# Altium schematic symbol library C-Connector.SchLib: 407 symbols (part 3 of 4)
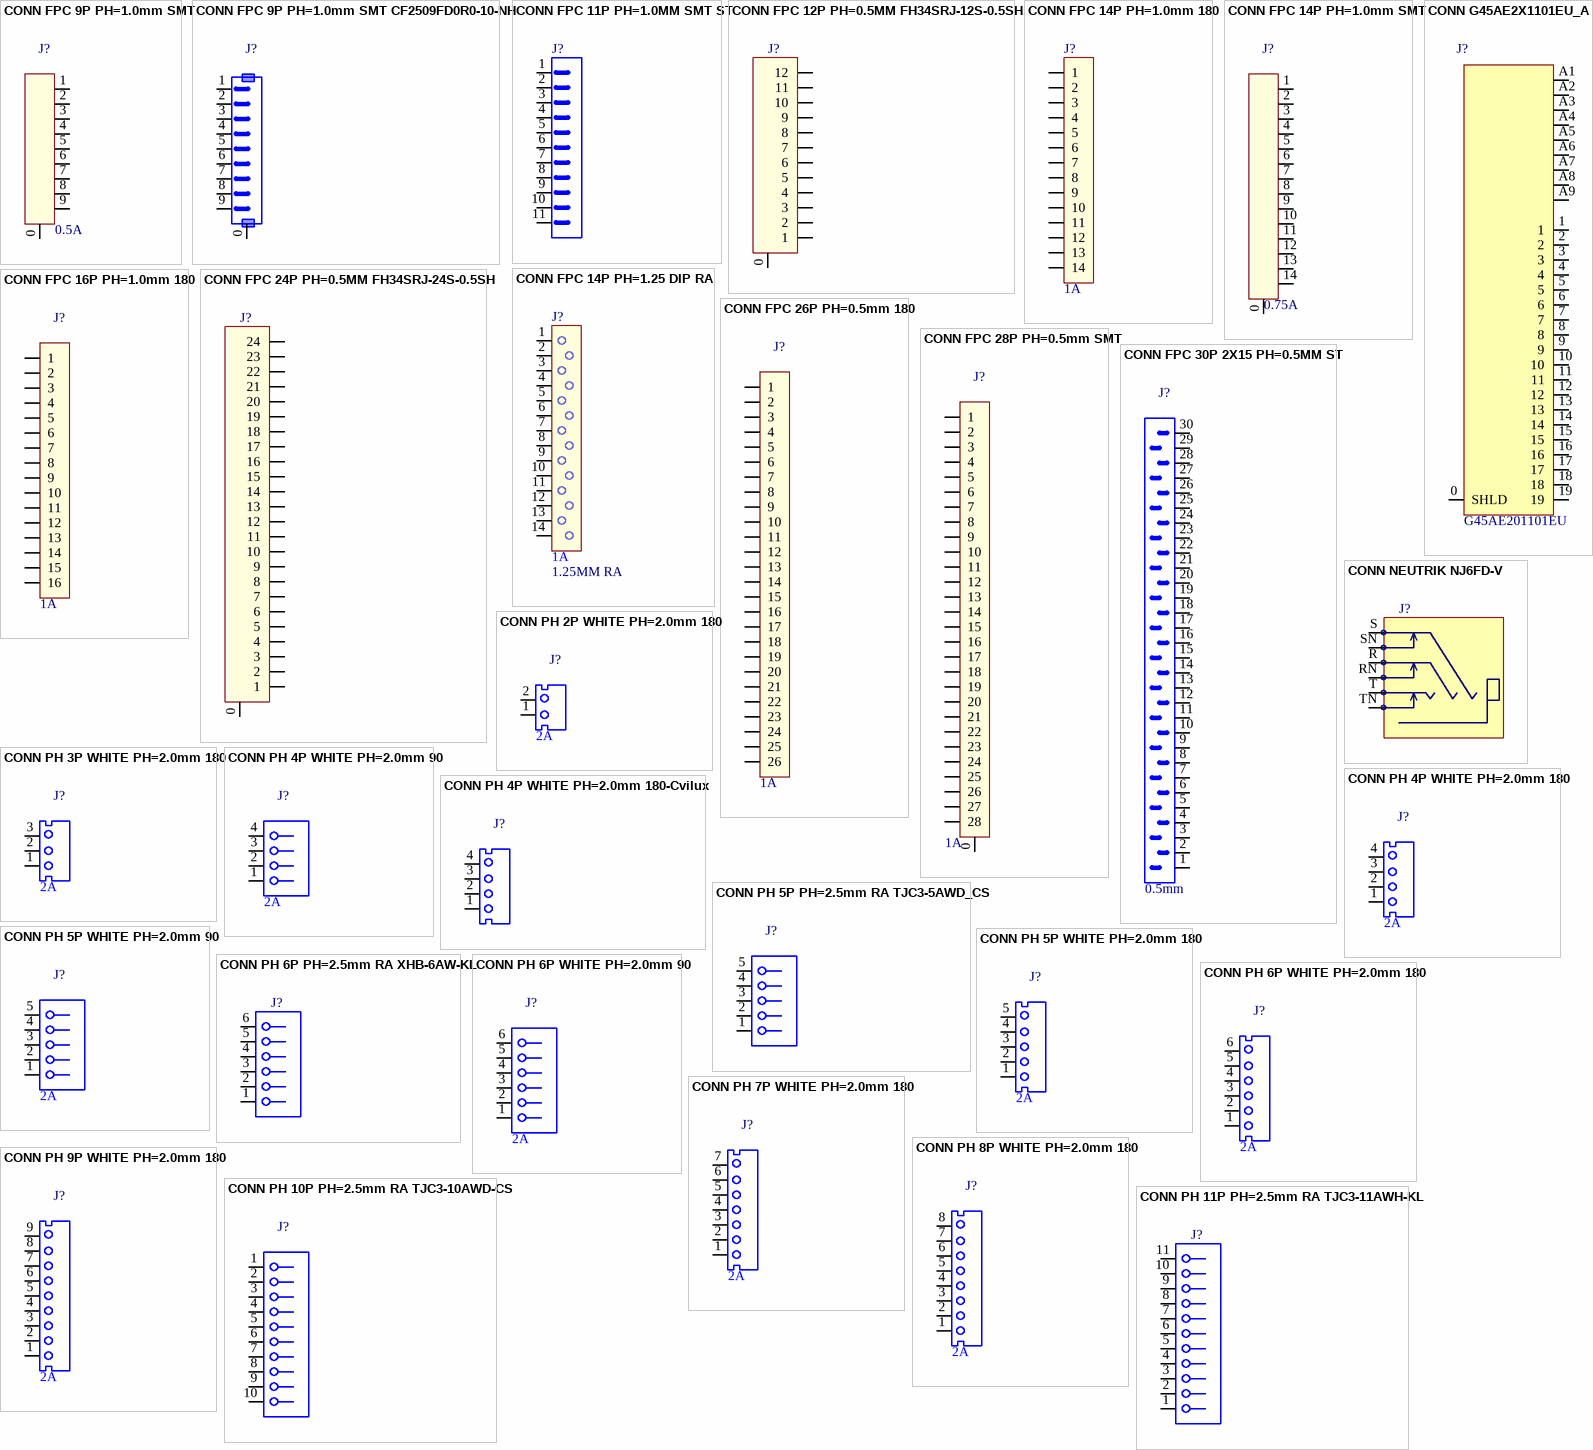
[diagram p16: symbols CONN FPC 9P PH=1.0mm SMT to CONN PH 11P PH=2.5mm RA TJC3-11AWH-KL]

## CONN PH 4P WHITE PH=2.0mm 180-Cvilux
designator J?, comment T690300058000  (value not drawn)
2.0MM 4P TOP ENTRY CI0104P1VK0-NH L; MFG: CVILUX; CREATE_NAME: Tom; DIP&SMD: DIP; Value: 2.0mm; SAP: T690300058000; MFG Part: CI0104P1VK0-NH; Vendor Name: *; Vendor Code: *; Type: Connector; CREATE_TIME: 25-Feb-2016
footprint CONN PH 4P PH=2.0MM 180 (CONN PH 4P PH=2.0MM 180 H6.2mm)
pins: 1, 2, 3, 4

## CONN PH 5P PH=2.5mm RA TJC3-5AWD_CS
designator J?, comment T690300078700  (value not drawn)
CONNECTOR 5PIN P:2.5MM FM\90 G; MFG Part: TJC3-5AWD_CS; Value: 2.5mm; MFG: JIN JIA; CREATE_NAME: Nathan; DIP&SMD: DIP; SAP: T690300078700; Vendor Name: *; Vendor Code: *; Type: Connector; Current: *; CREATE_TIME: 06-June-2016
footprint CONN 5P PH=2.5mm RA TJC3-5AWD-CS (WAFER 5P TJC3-5AWD-CS)
pins: 1, 2, 3, 4, 5

## CONN PH 5P WHITE PH=2.0mm 90
designator J?, comment Current: 2A  (hidden comment: CCN200000-0505)
GP CONNECTOR 5 PIN PITCH=2.0mm 90; Value: 2.0mm; SAP: T690300041000; Vendor Name: 亿源电子有限公司; Vendor Code: 10009989; DIP&SMD: DIP; MFG: *; MFG Part: *; Type: Connector
footprint CONN PH 5P PH=2.0MM 90 (CONN PH 5P PH=2.0MM 90 H5.15mm)
pins: 1, 2, 3, 4, 5

## CONN PH 5P WHITE PH=2.0mm 180
designator J?, comment Current: 2A  (hidden comment: CCN200000-0105)
GP CONNECTOR 5 PIN PITCH=2.0mm 180; Value: 2.0mm; SAP: T690300040500; Vendor Name: 亿源电子有限公司; Vendor Code: 10009989; DIP&SMD: DIP; MFG: *; MFG Part: *; Type: Connector
footprint CONN PH 5P PH=2.0MM 180 (CONN PH 5P PH=2.0MM 180 H6.2mm)
pins: 1, 2, 3, 4, 5

## CONN PH 6P PH=2.5mm RA XHB-6AW-KL
designator J?, comment T690300121600  (value not drawn)
CONNECTOR 6PIN P=2.5 WHITE 90 K; MFG Part: XHB-6AW-KL; Value: 2.5mm; MFG: 金佳电子; CREATE_NAME: Nathan; DIP&SMD: DIP; SAP: T690300121600; Vendor Name: *; Vendor Code: *; Type: Connector; Current: *; CREATE_TIME: 27-Sep-2017
footprint CONN 6P PH=2.5mm RA XHB-6AW-KL (WAFER 6P XHB-6AW-KL)
pins: 1, 2, 3, 4, 5, 6

## CONN PH 6P WHITE PH=2.0mm 90
designator J?, comment Current: 2A  (hidden comment: CCN200000-0506)
CONNECTOR 6 PIN PITCH=2.0mm 90; Value: 2.0mm; SAP: T690300041100; Vendor Name: 亿源电子有限公司; Vendor Code: 10009989; DIP&SMD: DIP; MFG: *; MFG Part: *; Type: Connector
footprint CONN PH 6P PH=2.0MM 90 (CONN PH 6P PH=2.0MM 90 H5.15mm)
pins: 1, 2, 3, 4, 5, 6

## CONN PH 6P WHITE PH=2.0mm 180
designator J?, comment Current: 2A  (hidden comment: CCN200000-0106)
GP CONNECTOR 6 PIN PITCH=2.0mm 180; Value: 2.0mm; SAP: T690300040600; Vendor Name: 亿源电子有限公司; Vendor Code: 10009989; DIP&SMD: DIP; MFG: *; MFG Part: *; Type: Connector
footprint CONN PH 6P PH=2.0MM 180 (CONN PH 6P PH=2.0MM 180 H6.2mm)
pins: 1, 2, 3, 4, 5, 6

## CONN PH 7P WHITE PH=2.0mm 180
designator J?, comment Current: 2A  (hidden comment: CCN200000-0107)
GP CONNECTOR 7 PIN PITCH=2.0mm 180; Value: 2.0mm; SAP: T690300027300; Vendor Name: 亿源电子有限公司; Vendor Code: 10009989; DIP&SMD: DIP; MFG: *; MFG Part: *; Type: Connector
footprint CONN PH 7P PH=2.0MM 180 (CONN PH 7P PH=2.0MM 180 H6.2mm)
pins: 1, 2, 3, 4, 5, 6, 7

## CONN PH 8P WHITE PH=2.0mm 180
designator J?, comment Current: 2A  (hidden comment: CCN200000-0108)
GP CONNECTOR 8 PIN PITCH=2.0mm 180; Value: 2.0mm; SAP: T690300027400; Vendor Name: 亿源电子有限公司; Vendor Code: 10009989; DIP&SMD: DIP; MFG: *; MFG Part: *; Type: Connector
footprint CONN PH 8P PH=2.0MM 180 (CONN PH 8P PH=2.0MM 180 H6.2mm)
pins: 1, 2, 3, 4, 5, 6, 7, 8

## CONN PH 9P WHITE PH=2.0mm 180
designator J?, comment Current: 2A  (hidden comment: CCN200000-0109)
GP CONNECTOR 9 PIN PITCH=2.0mm 180; Value: 2.0mm; SAP: T690300027500; Vendor Name: 深圳市利民丰电子有限公司; Vendor Code: 10020373; DIP&SMD: DIP; MFG: *; MFG Part: *; Type: Connector
footprint CONN PH 9P PH=2.0MM 180 (CONN PH 9P PH=2.0MM 180 H6.2mm)
pins: 1, 2, 3, 4, 5, 6, 7, 8, 9

## CONN PH 10P PH=2.5mm RA TJC3-10AWD-CS
designator J?, comment T690300164100  (value not drawn)
CONN 10P P2.5 M90 WHITE K; MFG Part: TJC3-10AWD-CS; Value: 2.5mm; MFG: JIN JIA; CREATE_NAME: Cherry; DIP&SMD: DIP; SAP: T690300164100; Vendor Name: *; Vendor Code: *; Type: Connector; Current: *; CREATE_TIME: 2019-04-10
footprint CONN 10P PH=2.5mm RA TJC3-10AWD-CS (WAFER 10P TJC3-10AWD-CS)
pins: 1, 2, 3, 4, 5, 6, 7, 8, 9, 10

## CONN PH 11P PH=2.5mm RA TJC3-11AWH-KL
designator J?, comment T690300122400  (value not drawn)
CONNECTOR 11P 2.5MM 90° DIP TJC3-11AWH K; MFG Part: TJC3-11AWH-KL; MFG: JINJIA; CREATE_NAME: Nathan; SAP: T690300122400; Vendor Name: *; Vendor Code: *; Type: Connector; CREATE_TIME: 09-Nov-2017; DIP&SMD: DIP
footprint CONN 11P PH=2.5mm RA TJC3-11AWH-KL (CONNECTOR 11PIN P=2.5 White 90')
pins: 1, 2, 3, 4, 5, 6, 7, 8, 9, 10, 11

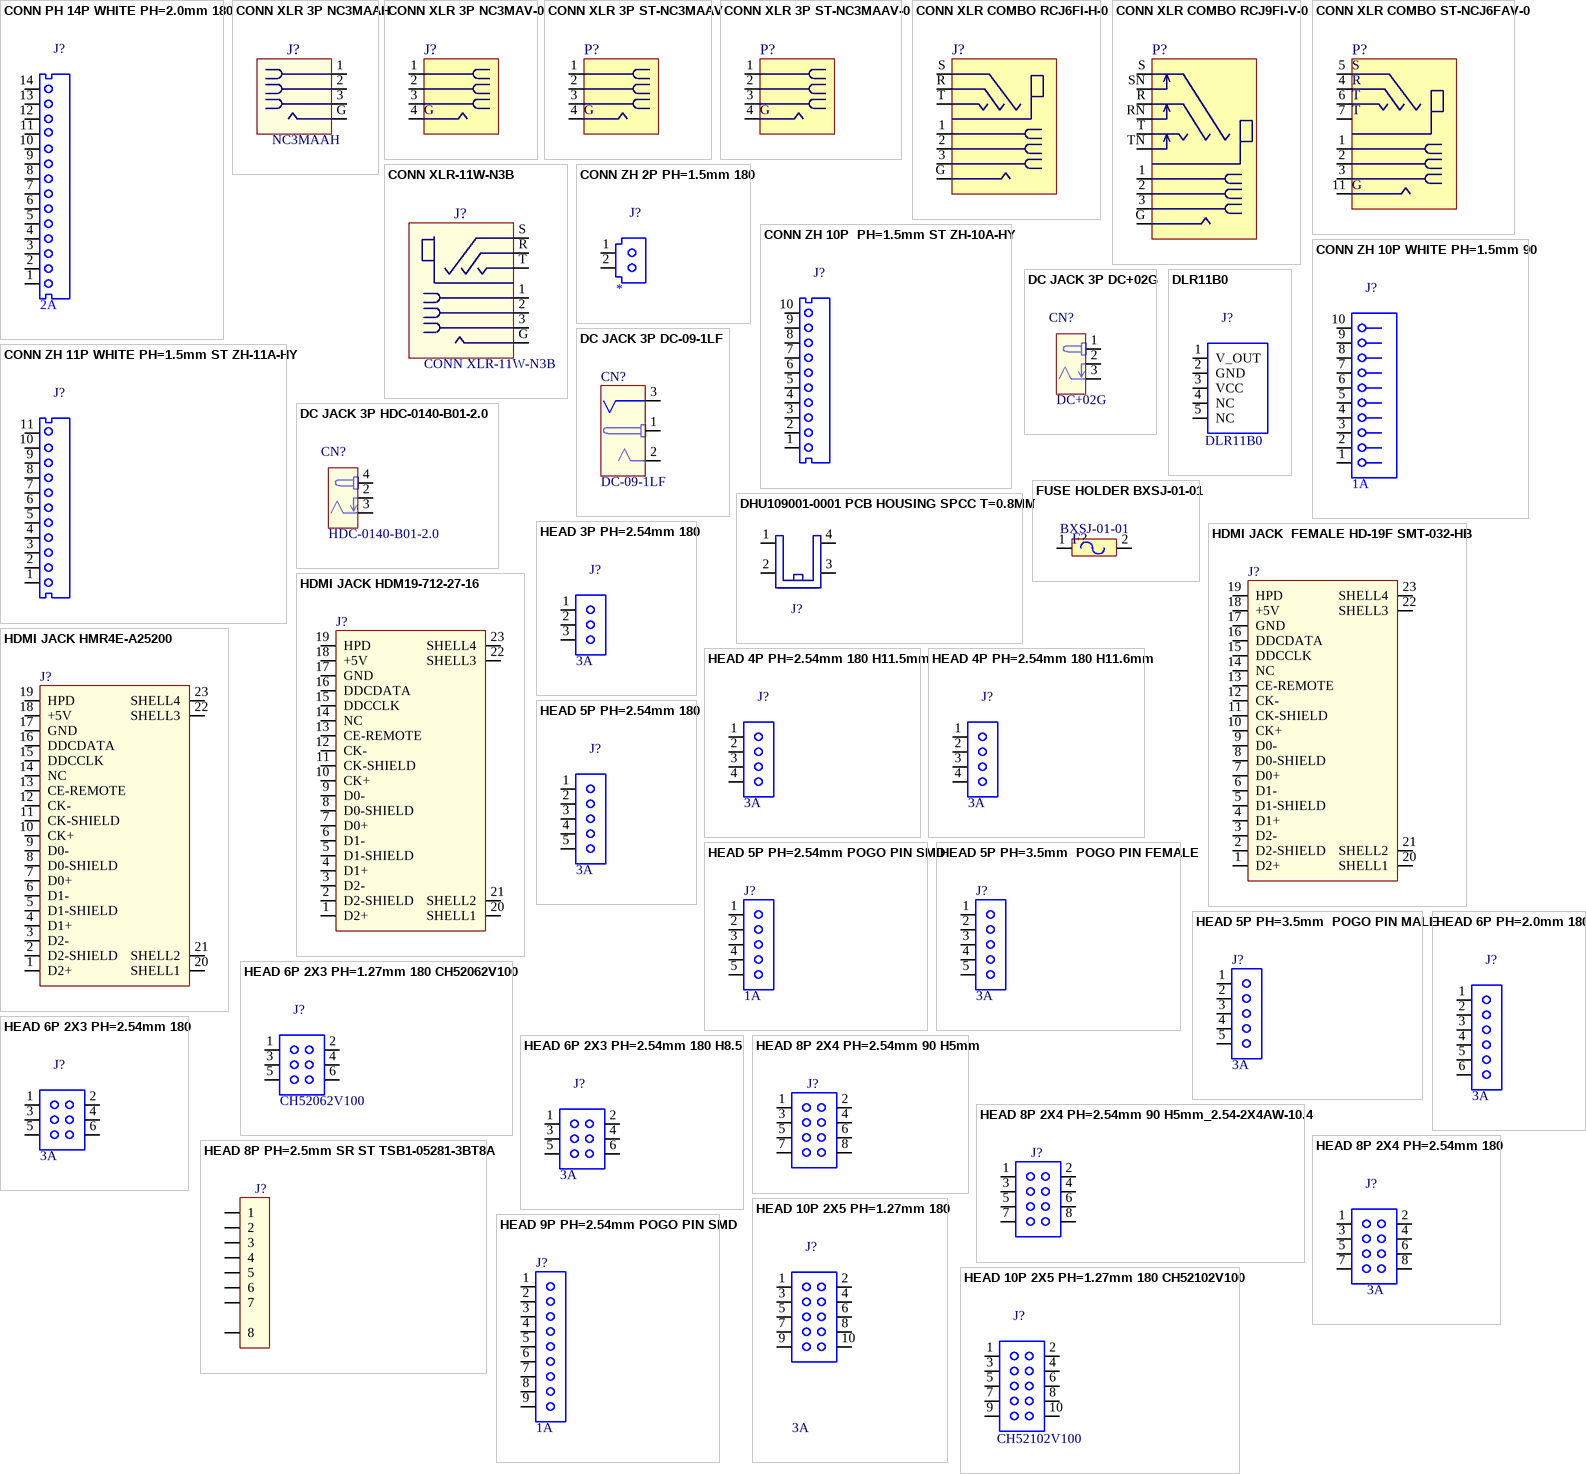
[diagram p9: symbols CONN PH 14P WHITE PH=2.0mm 180 to HEAD 10P 2X5 PH=1.27mm 180 CH52102V100]

## CONN PH 14P WHITE PH=2.0mm 180
designator J?, comment Current: 2A  (hidden comment: CCN200010-0114)
GP CONNECTOR 14 PIN PITCH=2.0mm 180; Value: 2.0mm; SAP: T690300028400; Vendor Name: 金科基; Vendor Code: HAA200A-14AD; CREATE_NAME: Nathan; DIP&SMD: DIP; MFG: *; MFG Part: *; Type: Connector; CREATE_TIME: 01-AUG-2014
footprint CONN PH 14P PH=2.0mm 180 (CONNECTOR 14P 2.0PITCH  WHITE NICKEL)
pins: 1, 2, 3, 4, 5, 6, 7, 8, 9, 10, 11, 12, 13, 14

## CONN XLR 3P NC3MAAH
designator J?, comment MFG Part: NC3MAAH  (hidden comment: T710200007000)
DIN JACK 3P Female NC3MAAH Neutrik; CREATE_NAME: Nathan; DIP&SMD: DIP; SAP: T710200007000; MFG: NEUTRIK; Vendor Name: *; Vendor Code: *; Type: Connector; CREATE_TIME: 21-Aug-2015
footprint CONN XLR 3P NC3MAAH
pins: 1, 2, 3, G

## CONN XLR 3P NC3MAV-0
designator J?, comment T710200009900  (value not drawn)
3 POLE MALE XLR RECEPTACLE K; MFG Part: NC3MAV-0; MFG: NEUTRIK; CREATE_NAME: Nathan; DIP&SMD: DIP; SAP: T710200009900; Vendor Name: *; Vendor Code: *; Type: Connector; CREATE_TIME: 20-Mar-2017
footprint CONN XLR 3P NC3MAV-0 (CONN XLR 3P NC3MAV)
pins: 1, 2, 3, 4
2 alternate drawings of the same symbol
text: G

## CONN XLR 3P ST-NC3MAAV
designator P?, comment CJDA03401-1010  (value not drawn)
XLR Connectors 3P NC3MAA; MFG Part: ST-NC3MAAV; SAP: T690300032000; MFG: NEUTRIK AG; CREATE_NAME: TOM@Deftronics; DIP&SMD: DIP; Vendor Name: *; Vendor Code: *; Type: Connector; CREATE_TIME: 31-MAY-2013
footprint CONN XLR 3P ST-NC3MAAV
pins: 1, 2, 3, 4
2 alternate drawings of the same symbol
text: G

## CONN XLR 3P ST-NC3MAAV-0
designator P?, comment T710200019600  (value not drawn)
3 POLE MALE XLR NC3MAAV-0 RECEPTACLE K; MFG Part: ST-NC3MAAV-0; MFG: NEUTRIK; CREATE_NAME: Nathan; DIP&SMD: DIP; SAP: T710200019600; Vendor Name: *; Vendor Code: *; Type: Connector; CREATE_TIME: 15-Mar-2019
footprint CONN XLR 3P ST-NC3MAAV-0 (CONN XLR 3P ST-NC3MAAV)
pins: 1, 2, 3, 4
2 alternate drawings of the same symbol
text: G

## CONN XLR COMBO RCJ6FI-H-0
designator J?, comment T691200003600  (value not drawn)
PLUG 50V 3A CHINA REAN W; MFG Part: RCJ6FI-H-0; CREATE_NAME: Nathan; DIP&SMD: DIP; SAP: T691200003600; MFG: REAN; Vendor Name: *; Vendor Code: *; Type: Connector; CREATE_TIME: 14-Jan-2019; Customer Specific: N/A
footprint CONN XLR COMBO RCJ6FI-H
pins: 1, 2, 3, G, R, S, T

## CONN XLR COMBO RCJ9FI-V-0
designator P?, comment T710200010000  (value not drawn)
COMBO JACK RCJ9FI-V-0 REAN K; CREATE_NAME: Nathan; DIP&SMD: DIP; SAP: T710200010000; MFG: REAN; Vendor Name: *; Vendor Code: *; Type: Connector; CREATE_TIME: 31-May-2016; MFG Part: RCJ9FI-V-0
footprint CONN XLR COMBO RCJ9FI-V-0 (3 pole XLR female receptacle with 1/4" switching stereo jack, vertical PCB mount, retention spring)
pins: 1, 2, 3, G, R, RN, S, SN, T, TN

## CONN XLR COMBO ST-NCJ6FAV-0
designator P?, comment CJDA06401-1010  (value not drawn)
CONN XLR COMBO A SERIES 6P VERT STR; MFG Part: NCJ6FA-V-0; SAP: T690300008500; MFG: NEUTRIK AG; CREATE_NAME: TOM@Deftronics; DIP&SMD: DIP; Vendor Name: *; Vendor Code: *; Type: Connector; CREATE_TIME: 31-MAY-2013
footprint CONN XLR COMBO ST-NCJ6FAV-0
pins: 1, 2, 3, 4, 5, 6, 7, 11
2 alternate drawings of the same symbol
text: S; R; T; G

## CONN XLR-11W-N3B
designator J?, comment MFG Part: CONN XLR-11W-N3B  (hidden comment: T710200019200)
XLR JACK 7PIN 90° XLR-11W-N3B K; MFG: JINJIA; CREATE_NAME: Tom; DIP&SMD: DIP; SAP: T710200019200; Vendor Name: *; Vendor Code: *; Type: Connector; CREATE_TIME: 20-Feb-2019; Customer Specific: N/A
footprint CONN XLR-11W-N3B
pins: 1, 2, 3, G, R, S, T

## CONN ZH 2P PH=1.5mm 180
designator J?, comment CCN150000-0102  (value not drawn)
CONNECTOR 2 PIN PITCH=1.5mm 180; MFG Part: CONN ZH 2P PH=1.5mm 180; SAP: T690300001800; MFG: 利民丰电子; CREATE_Name: Evan@Deftronics; DIP&SMD: DIP; Value: *; Vendor Name: *; Vendor Code: *; Type: Connector; CREATE_Time: 20-May-2014; Current: *
footprint CONN ZH 2P PH=1.5mm 180 (ph=1.5 mm,2PIN)
pins: 1, 2

## CONN ZH 10P  PH=1.5mm ST ZH-10A-HY
designator J?, comment T690300109400  (value not drawn)
CONNECTOR 10PIN 1.5MM 180° DIP K; MFG Part: ZH-10A-HY; MFG: 金佳电子; CREATE_NAME: Nathan; Value: 1.5mm; SAP: T690300109400; Vendor Name: *; Vendor Code: *; Type: Connector; CREATE_TIME: 13-Oct-2017; Current: *; DIP&SMD: DIP
footprint CONN ZH 10P PH=1.5mm ST ZH-10A-HY (CONN ZH 10P PH=1.5mm 180 H4.6mm)
pins: 1, 2, 3, 4, 5, 6, 7, 8, 9, 10

## CONN ZH 10P WHITE PH=1.5mm 90
designator J?, comment Current: 1A  (hidden comment: CCN150000-0510)
CONNECTOR 10 PIN PITCH=1.5mm 90; Value: 1.5mm; SAP: T690300002400; Vendor Name: 亿源电子有限公司; Vendor Code: 10009989; DIP&SMD: DIP; MFG: *; MFG Part: *; Type: Connector
footprint CONN ZH 10P PH=1.5mm 90 (CONN ZH 10P PH=1.5mm 90 H3.7mm)
pins: 1, 2, 3, 4, 5, 6, 7, 8, 9, 10

## CONN ZH 11P WHITE PH=1.5mm ST ZH-11A-HY
designator J?, comment T690300109700  (value not drawn)
CONNECTOR 11 PIN PITCH:1.5MM 180° DI K; MFG Part: ZH-11A-HY; Value: 1.5mm; MFG: 金佳电子; CREATE_NAME: Nathan; DIP&SMD: DIP; SAP: T690300109700; Vendor Name: *; Vendor Code: *; Type: Connector; CREATE_TIME: 13-Oct-2017; Current: *
footprint CONN ZH 11P PH=1.5mm ST ZH-11A-HY (CONN ZH 11P PH=1.5mm 180 H4.5mm)
pins: 1, 2, 3, 4, 5, 6, 7, 8, 9, 10, 11

## DC JACK 3P DC+02G
designator CN?, comment MFG Part: DC+02G  (hidden comment: T710200015100)
DC JACK DC+02G 3P H6.35XOD2.0 K; MFG: JINJIA; CREATE_NAME: Tom; DIP&SMD: DIP; Value: *; SAP: T710200015100; Vendor Name: *; Vendor Code: *; Type: Connector; CREATE_TIME: 03-Apr-2018; Current: *
footprint DC JACK 3P DC+02G (DC+02G)
pins: 1, 2, 3

## DC JACK 3P DC-09-1LF
designator CN?, comment MFG Part: DC-09-1LF  (hidden comment: T710200012500)
DC JACK DC30V 5A DC-09 K; MFG: 金佳电子; CREATE_NAME: Nathan; DIP&SMD: DIP; Value: *; SAP: T710200012500; Vendor Name: *; Vendor Code: *; Type: Connector; CREATE_TIME: 10-Nov-2017; Current: *
footprint DC JACK 2P  DC-09-1LF
pins: 1, 2, 3

## DC JACK 3P HDC-0140-B01-2.0
designator CN?, comment MFG Part: HDC-0140-B01-2.0  (hidden comment: T690300092300)
2.0MM DC JACK HDC-0140-B01-2.0. HAIIWA K; MFG: Haiiwai; CREATE_NAME: Nathan; DIP&SMD: DIP; Value: *; SAP: T690300092300; Vendor Name: *; Vendor Code: *; Type: Connector; CREATE_TIME: 11-Apr-2019; Current: *
footprint DC JACK 3P HDC-0140-B01-2.0
pins: 2, 3, 4

## DHU109001-0001 PCB HOUSING SPCC T=0.8MM
designator J?, comment T181800000040  (value not drawn)
PCB HOUSING SPCC T:0.8MM TIN PLATED WH S; MFG Part: DHU109001-0001; MFG: 开陽; CREATE_NAME: Nathan; DIP&SMD: DIP; Value: *; SAP: T181800000040; Vendor Name: *; Vendor Code: *; Type: Connector; Current: *; CREATE_TIME: 02-June-2016
footprint DHU109001-0001 PCB HOUSING 4P SPCC T=0.8MM (PCB HOUSING SPCC T:0.8MM TIN PLATED WH)
pins: 1, 2, 3, 4

## DLR11B0
designator J?, comment MFG Part: DLR11B0  (hidden comment: CJT200003-0001)
OPTICAL RECEIVER 16Mbps 3V-5V DLR11B0; SAP: T690300013800; Vendor Name: 金基科; CREATE_NAME: Evan@Deftronics; DIP&SMD: DIP; MFG: *; Vendor Code: *; Type: Connector; CREATE_TIME: 24-Jun-2014
footprint DLR11B0 (OPTICAL RECEIVER 16Mbps 3V-5V DLR11B0)
pins: 1 V_OUT, 2 GND, 3 VCC, 4 NC, 5 NC

## FUSE HOLDER BXSJ-01-01
designator F?, comment MFG Part: BXSJ-01-01  (hidden comment: CFC021001-1001)
FUSE HOLDER 5*20MM BXSJ-01-01; SAP: T690300023400; MFG: 亿山; Type: Connector; CREATE_NAME: GordonL@Deftronics; DIP&SMD: DIP; Vendor Name: *; Vendor Code: *; Value: *; CREATE_TIME: 25-JAN-2013; Current: *
footprint FUSE HOLDER BXSJ-01-01 (FUSE HOLDER 5*20MM BXSJ-01-01)
pins: 1, 2
2 alternate drawings of the same symbol

## HDMI JACK  FEMALE HD-19F SMT-032-HB
designator J?, comment CJU040007-0001  (value not drawn)
SMD HDMI JACK  FEMALE HD-19F SMT-032-HB; SAP: T690300014600; MFG: 高端电子; CREATE_NAME: Tom@Deftroincs; PACKAGE: *; Vendor Name: *; Vendor Code: *; MFG Part: *; Remark: *; Tolerance: *; Type: Connector; CREATE_TIME: 22-Mar-2014; DIP&SMD: SMD
footprint HDMI JACK  FEMALE 19F SMT-025
pins: 1 D2+, 2 D2-SHIELD, 3 D2-, 4 D1+, 5 D1-SHIELD, 6 D1-, 7 D0+, 8 D0-SHIELD, 9 D0-, 10 CK+, 11 CK-SHIELD, 12 CK-, 13 CE-REMOTE, 14 NC, 15 DDCCLK, 16 DDCDATA, 17 GND, 18 +5V, 19 HPD, 20 SHELL1, 21 SHELL2, 22 SHELL3, 23 SHELL4

## HDMI JACK HDM19-712-27-16
designator J?, comment T690300121400  (value not drawn)
HDMI A TYPE DIP 19P HDM19-712-27-16 K; MFG: 金佳; CREATE_NAME: Nathan; DIP&SMD: SMD; SAP: T690300121400; PACKAGE: *; Vendor Name: *; Vendor Code: *; MFG Part: HDM19-712-27-16; Remark: *; Tolerance: *; Type: Connector; CREATE_TIME: 27-Sep-2017
footprint HDMI JACK  HDM19-712-27-16 (HDMI JACK  HDM19-712-27-16 H6.2mm Ear4.2)
pins: 1 D2+, 2 D2-SHIELD, 3 D2-, 4 D1+, 5 D1-SHIELD, 6 D1-, 7 D0+, 8 D0-SHIELD, 9 D0-, 10 CK+, 11 CK-SHIELD, 12 CK-, 13 CE-REMOTE, 14 NC, 15 DDCCLK, 16 DDCDATA, 17 GND, 18 +5V, 19 HPD, 20 SHELL1, 21 SHELL2, 22 SHELL3, 23 SHELL4

## HDMI JACK HMR4E-A25200
designator J?, comment T690300144400  (value not drawn)
SMD HDMI JACK FEMALE 4P K; MFG Part: HMR4E-A25200; MFG: ACON; CREATE_NAME: Tom; SAP: T690300144400; PACKAGE: *; Vendor Name: *; Vendor Code: *; Remark: *; Tolerance: *; Type: Connector; CREATE_TIME: 13-Jun-2018; DIP&SMD: SMD
footprint HDMI JACK HMR4E-A25200
pins: 1 D2+, 2 D2-SHIELD, 3 D2-, 4 D1+, 5 D1-SHIELD, 6 D1-, 7 D0+, 8 D0-SHIELD, 9 D0-, 10 CK+, 11 CK-SHIELD, 12 CK-, 13 CE-REMOTE, 14 NC, 15 DDCCLK, 16 DDCDATA, 17 GND, 18 +5V, 19 HPD, 20 SHELL1, 21 SHELL2, 22 SHELL3, 23 SHELL4

## HEAD 3P PH=2.54mm 180
designator J?, comment Current: 3A  (hidden comment: CCP254010-0103)
HEAD PIN 3P P2.54*H11.6MM; Value: 2.54mm; SAP: T690300031100; Vendor Name: 深圳市利民丰电子有限公司; Vendor Code: 10020373; DIP&SMD: DIP; MFG: *; MFG Part: *; Type: Connector
footprint HEAD 3P PH=2.54mm 180 (HEAD 3P PH=2.54mm 180 H8.6mm)
pins: 1, 2, 3

## HEAD 4P PH=2.54mm 180 H11.5mm
designator J?, comment Current: 3A  (hidden comment: CCP254260-0104)
HEAD PIN 4P P2.54xH11.5MM; Value: 2.54mm; SAP: T690300023200; Vendor Name: 亿源电子有限公司; Vendor Code: 10009989; DIP&SMD: DIP; MFG: *; MFG Part: *; Type: Connector
footprint HEAD 4P PH=2.54mm 180 (HEAD 4P PH=2.54mm 180 H8.6mm)
pins: 1, 2, 3, 4

## HEAD 4P PH=2.54mm 180 H11.6mm
designator J?, comment Current: 3A  (hidden comment: CCP254001-0804)
HEAD PIN 4P P2.54*H11.6MM; Value: 2.54mm; SAP: T690300008300; Vendor Name: 亿源电子有限公司; Vendor Code: 10009989; DIP&SMD: DIP; MFG: *; MFG Part: *; Type: Connector
footprint HEAD 4P PH=2.54mm 180 (HEAD 4P PH=2.54mm 180 H8.6mm)
pins: 1, 2, 3, 4

## HEAD 5P PH=2.54mm 180
designator J?, comment Current: 3A  (hidden comment: CCP254260-0105)
HEAD PIN 5P P2.54xH11.5MM; Value: 2.54mm; SAP: T690300023300; Vendor Name: 亿源电子有限公司; Vendor Code: 10009989; DIP&SMD: DIP; MFG: *; MFG Part: *; Type: Connector
footprint HEAD 5P PH=2.54mm 180 (HEAD 5P PH=2.54mm 180 H8.6mm)
pins: 1, 2, 3, 4, 5

## HEAD 5P PH=2.54mm POGO PIN SMD
designator J?, comment Current: 1A  (hidden comment: CCP254010-0505)
SMD HEAD PIN 5PIN P=2.54mm 180' P2037MF01-05J254MR; Value: 2.5mm; SAP: T690300020500; MFG: 东莞中探探针有限公司; CREATE_NAME: Nathan; MFG Part: P2037MF01-05J254MR; Vendor Name: *; Vendor Code: *; Type: Connector; CREATE_TIME: 21-NOV-2014; DIP&SMD: SMD
footprint HEAD 5P PH=2.54mm  POGO PIN SMD (Pogo Pin Connector 5P PH=2.54mm)
pins: 1, 2, 3, 4, 5

## HEAD 5P PH=3.5mm  POGO PIN FEMALE
designator J?, comment Current: 3A  (hidden comment: CNC250010-0305)
CHIP CONNECTOR 5P CONN P=3.5mm 180' 单排; MFG Part: P2811FT01-05E350MR; Value: 3.5mm; SAP: T690300018800; MFG: 东莞中探探针有限公司; CREATE_NAME: Nathan; DIP&SMD: DIP; Vendor Name: *; Vendor Code: *; Type: Connector; CREATE_TIME: 27-OCT-2014
footprint HEAD 5P PH=3.5mm  POGO PIN FEMALE (Pogo Pin Connector 5P PH=3.5mm Female)
pins: 1, 2, 3, 4, 5

## HEAD 5P PH=3.5mm  POGO PIN MALE
designator J?, comment Current: 3A  (hidden comment: CNC250020-0305)
CHIP CONNECTOR 5P PGC P=3.5mm 180' 单排镀金; MFG Part: P2811MP01-05E350MR; Value: 3.5mm; SAP: T690300018900; MFG: 东莞中探探针有限公司; CREATE_NAME: Nathan; DIP&SMD: DIP; Vendor Name: *; Vendor Code: *; Type: Connector; CREATE_TIME: 27-OCT-2014
footprint HEAD 5P PH=3.5mm  POGO PIN MALE (Pogo Pin Connector 5P PH=3.5mm male)
pins: 1, 2, 3, 4, 5

## HEAD 6P 2X3 PH=1.27mm 180 CH52062V100
designator J?, comment MFG Part: CH52062V100  (hidden comment: T690300106100)
HEAD PIN 2*3PIN P1.27 M\90 CH52062V100 K; MFG: CVILUX(瀚荃); Value: 1.27mm; CREATE_NAME: Nathan; DIP&SMD: DIP; SAP: T690300106100; Vendor Name: *; Vendor Code: *; Type: Connector; CREATE_TIME: 23-MAR-2017
footprint HEAD 6P 2X3 PH=1.27mm 180 CH52062V100 (HEAD 6P 2X3 PH=1.27mm 180)
pins: 1, 2, 3, 4, 5, 6

## HEAD 6P 2X3 PH=2.54mm 180
designator J?, comment Current: 3A  (hidden comment: CCP254010-0706)
HEAD PIN 6P P=2.54mm 180 GOLD; Value: 2.54mm; SAP: T690300006700; Vendor Name: 深圳市利民丰电子有限公司; Vendor Code: 10020373; DIP&SMD: DIP; MFG: *; MFG Part: *; Type: Connector
footprint HEAD 6P 2X3 PH=2.54mm 180 (HEAD 6P 2X3 PH=2.54mm 180 H8.64mm)
pins: 1, 2, 3, 4, 5, 6

## HEAD 6P 2X3 PH=2.54mm 180 H8.5
designator J?, comment Current: 3A  (hidden comment: T690300101200)
CONNECTOR 2X3P 2.54 K; MFG Part: 2.54-2X3A-1; Value: 2.54mm; MFG: 金佳电子; CREATE_NAME: Nathan; DIP&SMD: DIP; SAP: T690300101200; Vendor Name: *; Vendor Code: *; Type: Connector; CREATE_TIME: 16-Jan-2017
footprint HEAD 6P 2X3 PH=2.54mm 180 H8.5mm (HEAD 6P 2X3 PH=2.54mm 180 H8.5mm+/-0.2)
pins: 1, 2, 3, 4, 5, 6

## HEAD 6P PH=2.0mm 180
designator J?, comment Current: 3A  (hidden comment: CCP200010-0106)
HEAD PIN 6P P=2.0mm 180 NICKEL 单排; Value: 2.0mm; SAP: T690300007700; Vendor Name: 深圳市利民丰电子有限公司; Vendor Code: 10020373; DIP&SMD: DIP; MFG: *; MFG Part: *; Type: Connector
footprint HEAD 6P PH=2.0mm 180
pins: 1, 2, 3, 4, 5, 6

## HEAD 8P 2X4 PH=2.54mm 90 H5mm
designator J?, comment CCP254020-1508  (value not drawn)
HEAD DUAL PIN 8P P2.54 90 GOLD; Value: 2.54mm; SAP: T690300039600; Vendor Name: 深圳市利民丰电子有限公司; Vendor Code: 10020373; DIP&SMD: DIP; MFG: *; MFG Part: *; Type: Connector; Current: *
footprint HEAD 8P 2X4 PH=2.54mm 90 H5mm
pins: 1, 2, 3, 4, 5, 6, 7, 8

## HEAD 8P 2X4 PH=2.54mm 90 H5mm_2.54-2X4AW-10.4
designator J?, comment T690300110000  (value not drawn)
2X4P P:2.54MM 90° DIP K; MFG Part: 2.54-2X4AW-10.4; Value: 2.54mm; MFG: JINJIA; CREATE_NAME: Nathan; SAP: T690300110000; Vendor Name: *; Vendor Code: *; Type: Connector; Current: *; CREATE_TIME: 12-Sep-2017; DIP&SMD: DIP
footprint HEAD 8P 2X4 PH=2.54mm 90 H5mm_2.54-2X4AW-10.4 (HEAD 8P 2X4 PH=2.54mm 90 H5mm)
pins: 1, 2, 3, 4, 5, 6, 7, 8

## HEAD 8P 2X4 PH=2.54mm 180
designator J?, comment Current: 3A  (hidden comment: CCP254010-0708)
HEAD PIN 8P 180' DUAL PIN P2.54*H11.5mm 2X4; Value: 2.54mm; SAP: T690300006800; Vendor Name: 亿源电子有限公司; Vendor Code: 10009989; DIP&SMD: DIP; MFG: *; MFG Part: *; Type: Connector
footprint HEAD 8P 2X4 PH=2.54mm 180 (HEAD 8P 2X4 PH=2.54mm 180 H8.64mm)
pins: 1, 2, 3, 4, 5, 6, 7, 8

## HEAD 8P PH=2.5mm SR ST TSB1-05281-3BT8A
designator J?, comment T690300109900  (value not drawn)
CONNECTOR 2.5MM 8PIN DIP 180 K; MFG Part: TSB1-05281-3BT8A; MFG: 欣讯科技股份有限公司; CREATE_NAME: Nathan; Current: 3A; Value: 2.5mm; SAP: T690300109900; Vendor Name: *; Vendor Code: *; Type: Connector; CREATE_TIME: 12-Sep-2017; DIP&SMD: DIP
footprint HEAD 8P PH=2.5mm SR ST TSB1-05281-3BT8A (CHIP CONNECTOR 8P P=2.5mm ST MALE)
pins: 1, 2, 3, 4, 5, 6, 7, 8

## HEAD 9P PH=2.54mm POGO PIN SMD
designator J?, comment Current: 1A  (hidden comment: CCP254010-0509)
SMD HEAD PIN 9PIN P=2.54mm 180' P2839MF01-09F254MR; Value: 2.5mm; SAP: T690300020600; MFG: 东莞中探探针有限公司; CREATE_NAME: Nathan; MFG Part: P2839MF01-09F254MR; Vendor Name: *; Vendor Code: *; Type: Connector; CREATE_TIME: 21-NOV-2014; DIP&SMD: SMD
footprint HEAD 9P PH=2.54mm  POGO PIN SMD (Pogo Pin Connector 5P PH=2.54mm)
pins: 1, 2, 3, 4, 5, 6, 7, 8, 9

## HEAD 10P 2X5 PH=1.27mm 180
designator J?, comment Current: 3A  (hidden comment: CCP127020-0310)
HEAD PIN 10P P1.27 180 双排双绝缘; SAP: T690300007300; Vendor Name: 深圳市利民丰电子有限公司; Vendor Code: 10020373; Value: 1.27mm; DIP&SMD: DIP; MFG: *; MFG Part: *; Type: Connector
footprint HEAD 10P 2X5 PH=1.27mm 180
pins: 1, 2, 3, 4, 5, 6, 7, 8, 9, 10

## HEAD 10P 2X5 PH=1.27mm 180 CH52102V100
designator J?, comment MFG Part: CH52102V100  (hidden comment: T690300086700)
CONN 1.27MM 2PIN DIP CH52102V100 K; MFG: CviLux; CREATE_NAME: Nathan; SAP: T690300086700; Vendor Name: *; Vendor Code: *; Value: 1.27mm; Type: Connector; CREATE_TIME: 23-MAR-2017; DIP&SMD: DIP
footprint HEAD 10P 2X5 PH=1.27mm 180 CH52102V100 (HEAD 10P 2X5 PH=1.27mm 180)
pins: 1, 2, 3, 4, 5, 6, 7, 8, 9, 10

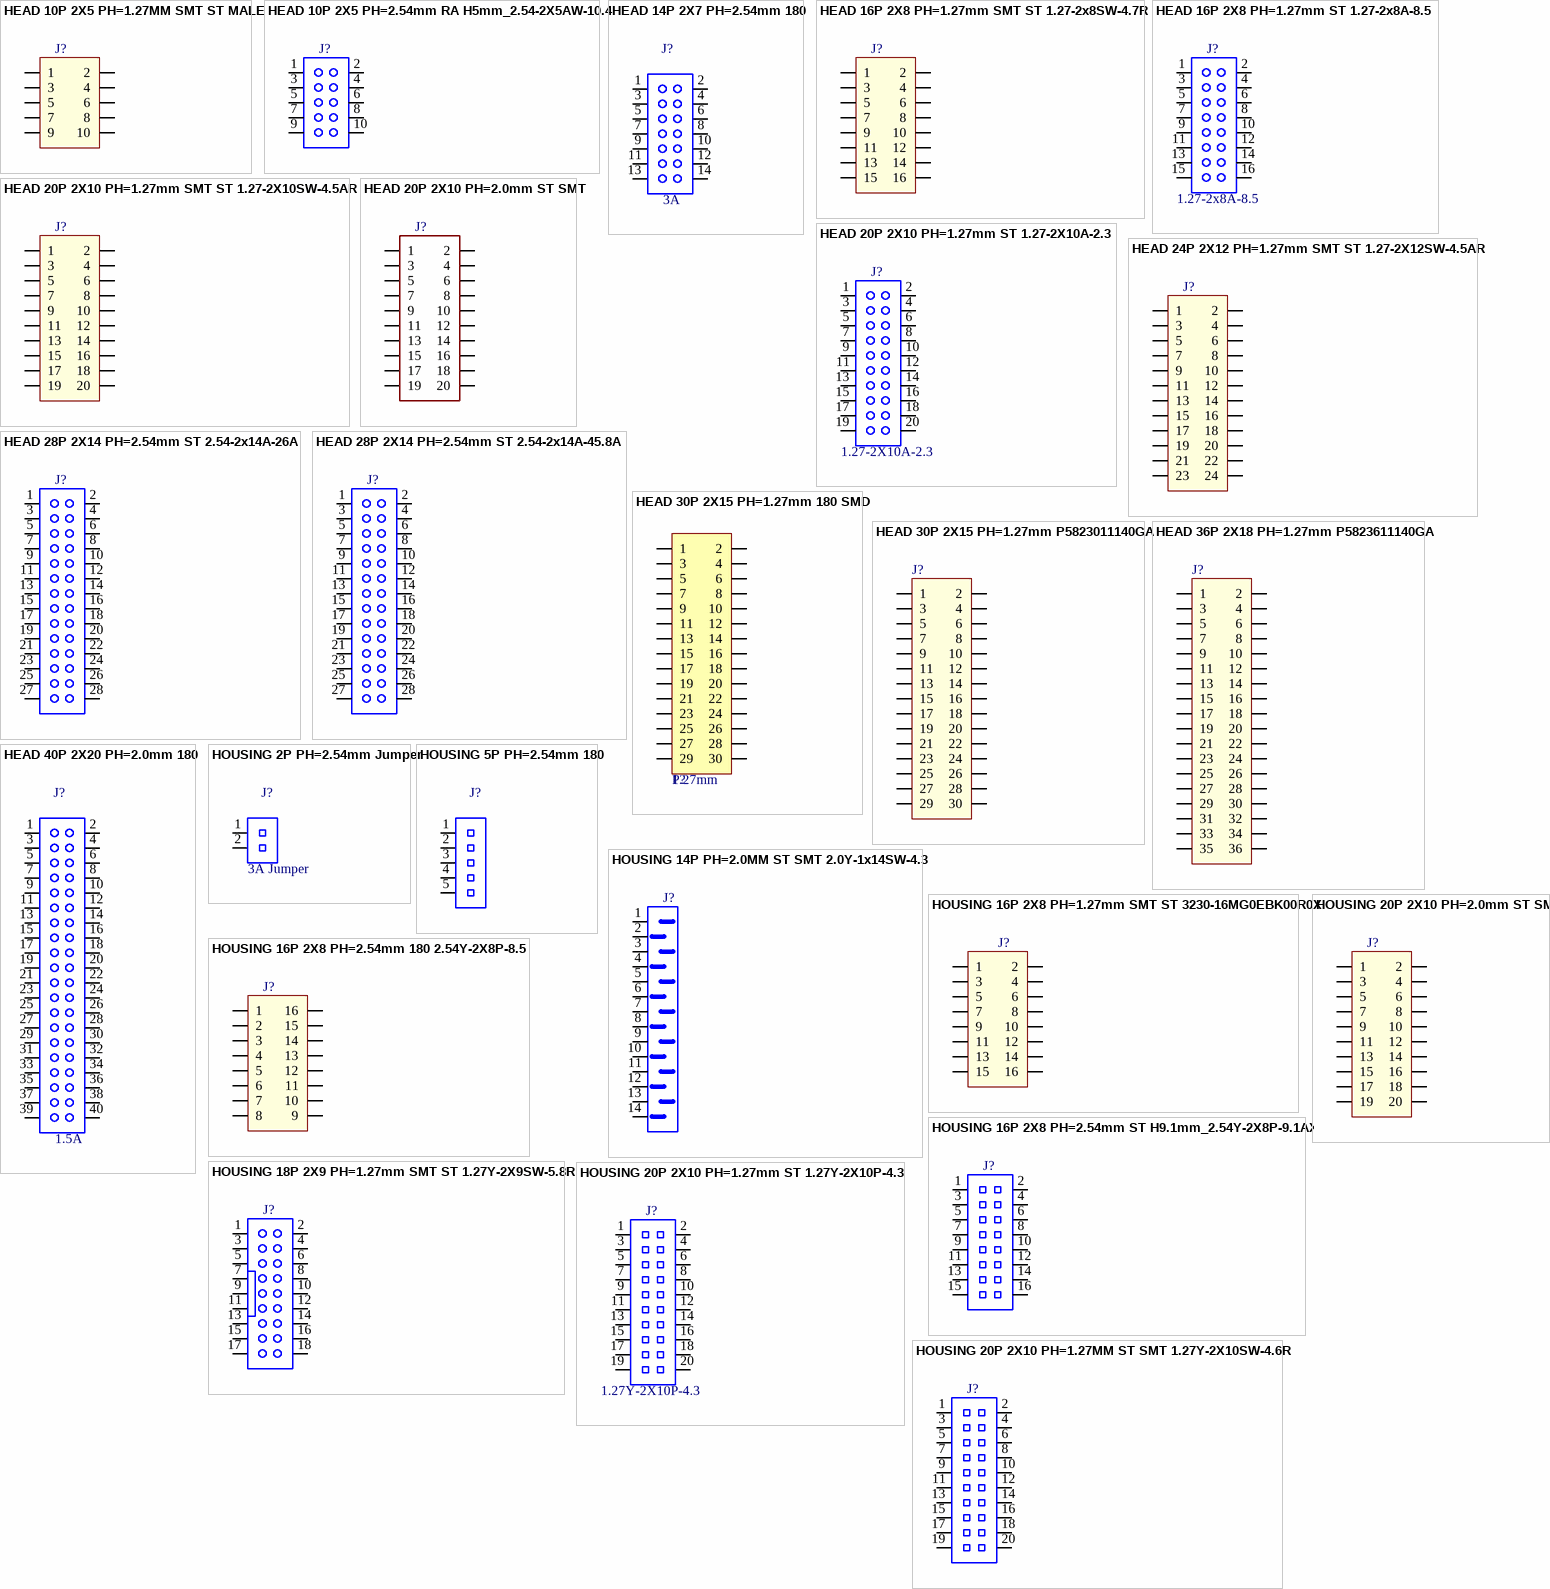
[diagram p10: symbols HEAD 10P 2X5 PH=1.27MM SMT ST MALE to HOUSING 20P 2X10 PH=2.0mm ST SMT]

## HEAD 10P 2X5 PH=1.27MM SMT ST MALE
designator J?, comment T690300079300  (value not drawn)
HEAD SMT 2*5PIN 1.27-2x5SW-5.5B 90 G; MFG: 金佳; CREATE_NAME: Tom; DIP&SMD: SMD; SAP: T690300079300; PACKAGE: *; Vendor Name: *; Vendor Code: *; MFG Part: 1.27-2x5SW-5.5B; Remark: *; Tolerance: *; Type: Connector; CREATE_TIME: 23-May-2016
footprint HEAD 10P 2X5 PH=1.27MM MALE
pins: 1, 2, 3, 4, 5, 6, 7, 8, 9, 10

## HEAD 10P 2X5 PH=2.54mm RA H5mm_2.54-2X5AW-10.4
designator J?, comment T690300162100  (value not drawn)
2X5P P:2.54MM 90° DIP L; MFG Part: 2.54-2X5AW-10.4; Value: 2.54mm; MFG: JINJIA; CREATE_NAME: Nathan; SAP: T690300162100; Vendor Name: *; Vendor Code: *; Type: Connector; Current: *; CREATE_TIME: 20-Nov-2018; DIP&SMD: DIP
footprint HEAD 10P 2X5PH=2.54mm RA 2.54-2x5AW-10.4 (HEAD 1 TH 10P 2X5PH=2.54mm  ,2.54-2x5AW-10.4)
pins: 1, 2, 3, 4, 5, 6, 7, 8, 9, 10

## HEAD 14P 2X7 PH=2.54mm 180
designator J?, comment Current: 3A  (hidden comment: CCP254010-0714)
HEAD DUAL PIN 14P P2.54 180 GOLD; Value: 2.54mm; SAP: T690300022200; Vendor Name: 深圳市利民丰电子有限公司; Vendor Code: 10020373; DIP&SMD: DIP; MFG: *; MFG Part: *; Type: Connector
footprint HEAD 14P 2X7 PH=2.54mm 180 (HEAD 14P 2X7 PH=2.54mm 180 H8.64mm)
pins: 1, 2, 3, 4, 5, 6, 7, 8, 9, 10, 11, 12, 13, 14

## HEAD 16P 2X8 PH=1.27mm SMT ST 1.27-2x8SW-4.7R
designator J?, comment T690300129000  (value not drawn)
HEAD 2*8P P1.27 M\90 1.27-2X8SW-4.7R K; MFG: 金佳; Value: 1.27mm; CREATE_NAME: Nathan; Current: 1A; DIP&SMD: SMD; SAP: T690300129000; MFG Part: 1.27-2x8SW-4.7R; Vendor Name: *; Vendor Code: *; Type: Connector; CREATE_TIME: 04-Jan-2018
footprint HEAD 16P 2X8 PH=1.27mm SMT ST 1.27-2x8SW-4.7R (HEAD 16P 2X8 PH=1.27mm ST SMD)
pins: 1, 2, 3, 4, 5, 6, 7, 8, 9, 10, 11, 12, 13, 14, 15, 16

## HEAD 16P 2X8 PH=1.27mm ST 1.27-2x8A-8.5
designator J?, comment MFG Part: 1.27-2x8A-8.5  (hidden comment: T690300129100)
HEAD 2*8P P1.27 M\90 1.27-2X8A-8.5 K; MFG: 金佳; Value: 1.27mm; Current: 1A; CREATE_NAME: Nathan; DIP&SMD: DIP; SAP: T690300129100; Vendor Name: *; Vendor Code: *; Type: Connector; CREATE_TIME: 04-Jan-2018
footprint HEAD 16P 2X8 PH=1.27mm ST 1.27-2x8A-8.5 (HEAD 18P 2X8 PH=1.27mm ST)
pins: 1, 2, 3, 4, 5, 6, 7, 8, 9, 10, 11, 12, 13, 14, 15, 16

## HEAD 20P 2X10 PH=1.27mm SMT ST 1.27-2X10SW-4.5AR
designator J?, comment T690300123900  (value not drawn)
CONNECTOR 20PIN P:1.27MM M90 K; MFG Part: 1.27-2X10SW-4.5AR; MFG: 金佳; Value: 1.27mm; CREATE_NAME: Nathan; Current: 1A; DIP&SMD: SMD; SAP: T690300123900; Vendor Name: *; Vendor Code: *; Type: Connector; CREATE_TIME: 12-Apr-2018
footprint HEAD 20P 2X10 PH=1.27mm SMT ST 1.27-2x10SW-4.5AR (HEAD 20P 2X10 PH=1.27mm ST SMD)
pins: 1, 2, 3, 4, 5, 6, 7, 8, 9, 10, 11, 12, 13, 14, 15, 16, 17, 18, 19, 20

## HEAD 20P 2X10 PH=1.27mm ST 1.27-2X10A-2.3
designator J?, comment MFG Part: 1.27-2X10A-2.3  (hidden comment: T690300142400)
HEAD 2*10P P1.27 M\180 1.27-2X10A-2.3 K; MFG: 金佳; Value: 1.27mm; Current: 1A; CREATE_NAME: Nathan; DIP&SMD: DIP; SAP: T690300142400; Vendor Name: *; Vendor Code: *; Type: Connector; CREATE_TIME: 22-May-2018
footprint HEAD 20P 2X10 PH=1.27mm ST 1.27-2x10A-2.3 (HEAD 20P 2X10 PH=1.27mm ST)
pins: 1, 2, 3, 4, 5, 6, 7, 8, 9, 10, 11, 12, 13, 14, 15, 16, 17, 18, 19, 20

## HEAD 20P 2X10 PH=2.0mm ST SMT
designator J?, comment T690300097600  (value not drawn)
2*10PIN 2.0MM CONNECTOR K; MFG Part: 132020CWG1M800R01; MFG: 金瑞康; Current: 1.5A; CREATE_NAME: Tom; DIP&SMD: SMD; Value: 2.0mm; SAP: T690300097600; Vendor Name: *; Vendor Code: *; Type: Connector; CREATE_TIME: 26-Dec-2016
footprint HEAD 20P 2X10 PH=2.0mm ST SMT
pins: 1, 2, 3, 4, 5, 6, 7, 8, 9, 10, 11, 12, 13, 14, 15, 16, 17, 18, 19, 20

## HEAD 24P 2X12 PH=1.27mm SMT ST 1.27-2X12SW-4.5AR
designator J?, comment T690300134900  (value not drawn)
CONNECTOR 24PIN P:1.27MM M90 K; MFG Part: 1.27-2X12SW-4.5AR; MFG: 金佳; Value: 1.27mm; CREATE_NAME: Nathan; Current: 1A; DIP&SMD: SMD; SAP: T690300134900; Vendor Name: *; Vendor Code: *; Type: Connector; CREATE_TIME: 12-Apr-2018
footprint HEAD 24P 2X12 PH=1.27mm SMT ST 1.27-2x12SW-4.5AR (HEAD 24P 2X12 PH=1.27mm ST SMD)
pins: 1, 2, 3, 4, 5, 6, 7, 8, 9, 10, 11, 12, 13, 14, 15, 16, 17, 18, 19, 20, 21, 22, 23, 24

## HEAD 28P 2X14 PH=2.54mm ST 2.54-2x14A-26A
designator J?, comment T690300162800  (value not drawn)
HEAD 2X14PIN 28P P=2.54MM H=26MM DUAL K; MFG Part: 2.54-2x14A-26A; Value: 2.54mm; MFG: JIN JIA; CREATE_NAME: Nathan; Current: 3A; DIP&SMD: DIP; SAP: T690300162800; Vendor Name: *; Vendor Code: *; Type: Connector; CREATE_TIME: 19-Mar-2019; Customer Specific: N/A
footprint HEAD 28P 2X14 PH=2.54mm ST 2.54-2x14A-26A (HEAD 28P 2X14 PH=2.54mm 180 H23mm)
pins: 1, 2, 3, 4, 5, 6, 7, 8, 9, 10, 11, 12, 13, 14, 15, 16, 17, 18, 19, 20, 21, 22, 23, 24, 25, 26, 27, 28

## HEAD 28P 2X14 PH=2.54mm ST 2.54-2x14A-45.8A
designator J?, comment T690300165400  (value not drawn)
CONN 2X14P P2.54 M180 H45.8 K; MFG Part: 2.54-2x14A-45.8A; Value: 2.54mm; MFG: JIN JIA; CREATE_NAME: Nathan; Current: 3A; DIP&SMD: DIP; SAP: T690300165400; Vendor Name: *; Vendor Code: *; Type: Connector; CREATE_TIME: 15-Apr-2019; Customer Specific: N/A
footprint HEAD 28P 2X14 PH=2.54mm ST 2.54-2x14A-45.8A (HEAD 28P 2X14 PH=2.54mm 180 H42.8mm)
pins: 1, 2, 3, 4, 5, 6, 7, 8, 9, 10, 11, 12, 13, 14, 15, 16, 17, 18, 19, 20, 21, 22, 23, 24, 25, 26, 27, 28

## HEAD 30P 2X15 PH=1.27mm 180 SMD
designator P?, comment value 1.27mm  (hidden comment: CCP127010-1530)
HEAD PIN 2x15P P=1.27mm 90' 双排双绝缘; MFG: SAMTEC; SAP: T690300004300; CREATE_NAME: Tom@Deftronics; DIP&SMD: SMD; MFG Part: *; TYPE: Connector; Vendor Code: *; Vendor Name: *; CREATE_TIME: 11-Oct-2013
footprint HEAD 30P 2X15 PH=1.27mm 180 SMD
pins: 1, 2, 3, 4, 5, 6, 7, 8, 9, 10, 11, 12, 13, 14, 15, 16, 17, 18, 19, 20, 21, 22, 23, 24, 25, 26, 27, 28, 29, 30

## HEAD 30P 2X15 PH=1.27mm P5823011140GA
designator J?, comment T690300120500  (value not drawn)
HEAD 2*15P P1.27 M\90 P5823011140GA K; CREATE_NAME: Tom; MFG: JIATAICHEN; DIP&SMD: DIP; CREATE_TIME: 29-Sep-2017; MFG Part: P5823011140GA; SAP: T690300120500; Type: Connector
footprint HEAD 30P 2X15 PH=1.27mm P5823011140GA
pins: 1, 2, 3, 4, 5, 6, 7, 8, 9, 10, 11, 12, 13, 14, 15, 16, 17, 18, 19, 20, 21, 22, 23, 24, 25, 26, 27, 28, 29, 30

## HEAD 36P 2X18 PH=1.27mm P5823611140GA
designator J?, comment T690300121000  (value not drawn)
HEAD 2*18P P1.27 M\90 P5823611140GA K; CREATE_NAME: Tom; MFG: JIATAICHEN; DIP&SMD: DIP; CREATE_TIME: 30-Sep-2017; MFG Part: P5823611140GA; SAP: T690300121000; Type: Connector
footprint HEAD 36P 2X18 PH=1.27mm P5823611140GA
pins: 1, 2, 3, 4, 5, 6, 7, 8, 9, 10, 11, 12, 13, 14, 15, 16, 17, 18, 19, 20, 21, 22, 23, 24, 25, 26, 27, 28, 29, 30, 31, 32, 33, 34, 35, 36

## HEAD 40P 2X20 PH=2.0mm 180
designator J?, comment Current: 1.5A  (hidden comment: CCP200010-0720)
HEAD PIN  20PX2 P=2.0 180' GOLD 双排; Value: 2.0mm; SAP: T690300008000; CREATE_NAME: GordonL@Deftronics; DIP&SMD: DIP; MFG: *; MFG Part: *; Vendor Name: *; Vendor Code: *; Type: Connector; CREATE_TIME: 21-JAN-2013
footprint HEAD 40P 2X20 PH=2.0mm 180 (HEAD 40P 2X20 PH=2.0mm 180 H8.64mm)
pins: 1, 2, 3, 4, 5, 6, 7, 8, 9, 10, 11, 12, 13, 14, 15, 16, 17, 18, 19, 20, 21, 22, 23, 24, 25, 26, 27, 28, 29, 30, 31, 32, 33, 34, 35, 36, 37, 38, 39, 40

## HOUSING 2P PH=2.54mm Jumper
designator J?, comment Current: 3A Jumper  (hidden comment: CCH254020-0102)
HOUSING SIL Jumper 2P 90059-1007 Molex; Value: 2.54mm; SAP: T690300000900; Vendor Name: 深圳市利民丰电子有限公司; Vendor Code: 10020373; DIP&SMD: DIP; MFG: *; MFG Part: *; Type: Connector
footprint HOUSING 2P PH=2.54mm Jumper (HOUSING 2P PH=2.54mm Jumper H8.5mm)
pins: 1, 2

## HOUSING 5P PH=2.54mm 180
designator J?, comment CCH254000-0305  (value not drawn)
HOUSING 5P P=2.54 180; Value: 2.54mm; SAP: T690300000400; Vendor Name: 亿源电子有限公司; Vendor Code: 10009989; DIP&SMD: DIP; MFG: *; MFG Part: *; Current: *; Type: Connector
footprint HOUSING 5P PH=2.54mm 180 (HOUSING 5P PH=2.54mm 180 H8.5mm)
pins: 1, 2, 3, 4, 5

## HOUSING 14P PH=2.0MM ST SMT 2.0Y-1x14SW-4.3
designator J?, comment T690300114500  (value not drawn)
CONN 1*14PIN P2.0 2.0Y-1X14SW-4.3 K; MFG: JINJIA; CREATE_NAME: Nathan; DIP&SMD: SMD; SAP: T690300114500; Vendor Name: *; Vendor Code: *; Type: Connector; MFG Part: 2.0Y-1x14SW-4.3; CREATE_TIME: 04-Aug-2017
footprint HOUSING 14P PH=2.0mm ST SMT_2.0Y-1x14SW-4.3 (HOUSING 14PIN P=2.0mm ST SMT)
pins: 1, 2, 3, 4, 5, 6, 7, 8, 9, 10, 11, 12, 13, 14

## HOUSING 16P 2X8 PH=1.27mm SMT ST 3230-16MG0EBK00R0X
designator J?, comment T690300084400  (value not drawn)
CONNECTOR 16PIN P:1.27MM 90 JRCONN K; MFG Part: 3230-16MG0EBK00R0X; Value: 1.27mm; CREATE_NAME: Nathan; DIP&SMD: SMD; SAP: T690300084400; MFG: JRCONN; Vendor Name: *; Vendor Code: *; Type: Connector; CREATE_TIME: 19-Sep-2017
footprint HOUSING 16P 2X8 PH=1.27mm SMT ST 3230-16MG0EBK00R0X (1.27Box Header 16pin H5.2 SMT L=7.0mm)
pins: 1, 2, 3, 4, 5, 6, 7, 8, 9, 10, 11, 12, 13, 14, 15, 16

## HOUSING 16P 2X8 PH=2.54mm 180 2.54Y-2X8P-8.5
designator J?, comment T690300145100  (value not drawn)
CONN 16PIN P2.54 M\180 2.54Y-2X8P-8.5 K; Value: 2.54mm; MFG: JINJIA; Current: 3A; CREATE_NAME: Tom; DIP&SMD: DIP; SAP: T690300145100; MFG Part: 2.54Y-2X8P-8.5; Vendor Name: *; Vendor Code: *; Type: Connector; CREATE_TIME: 25-Jun-2018
footprint HOUSING 16P 2X8 PH=2.54mm 180 2.54Y-2X8P-8.5
pins: 1, 2, 3, 4, 5, 6, 7, 8, 9, 10, 11, 12, 13, 14, 15, 16

## HOUSING 16P 2X8 PH=2.54mm ST H9.1mm_2.54Y-2X8P-9.1AX
designator J?, comment T690300145200  (value not drawn)
CONN 16PIN P2.54 M\180 2.54Y-2X8P-9.1A K; MFG Part: 2.54Y-2X8P-9.1AX; Value: 2.54mm; MFG: JINJIA; CREATE_NAME: Tom; DIP&SMD: DIP; SAP: T690300145200; Vendor Name: *; Vendor Code: *; Type: Connector; Current: *; CREATE_TIME: 28-Jun-2018
footprint HOUSING 16P 2X8 PH=2.54mm ST H9.1mm_2.54Y-2X8P-9.1AX
pins: 1, 2, 3, 4, 5, 6, 7, 8, 9, 10, 11, 12, 13, 14, 15, 16

## HOUSING 18P 2X9 PH=1.27mm SMT ST 1.27Y-2X9SW-5.8R
designator J?, comment T690300157500  (value not drawn)
HOUSING 2*9PIN P 1.27Y-2X9SW-5.8R K; Value: 1.27mm; MFG: JIN JIA; Current: 1A; CREATE_NAME: Nathan; DIP&SMD: SMD; SAP: T690300157500; MFG Part: 1.27Y-2X9SW-5.8R; Vendor Name: *; Vendor Code: *; Type: Connector; CREATE_TIME: 14-Dec-2018
footprint HOUSING 18P 2X9 PH=1.27MM ST SMT 1.27Y-2X9SW-5.8R
pins: 1, 2, 3, 4, 5, 6, 7, 8, 9, 10, 11, 12, 13, 14, 15, 16, 17, 18

## HOUSING 20P 2X10 PH=1.27mm ST 1.27Y-2X10P-4.3
designator J?, comment MFG Part: 1.27Y-2X10P-4.3  (hidden comment: T690300142300)
F HEAD 2*10P P1.27 F\180 1.27Y-2X10P-4 K; Value: 1.27mm; MFG: JIN JIA; Current: 1A; CREATE_NAME: Nathan; DIP&SMD: DIP; SAP: T690300142300; Vendor Name: *; Vendor Code: *; Type: Connector; CREATE_TIME: 22-May-2018
footprint HOUSING 20P 2X10 PH=1.27mm ST 1.27Y-2X10P-4.3 (HOUSING 20P 2X10 PH=1.27mm ST)
pins: 1, 2, 3, 4, 5, 6, 7, 8, 9, 10, 11, 12, 13, 14, 15, 16, 17, 18, 19, 20

## HOUSING 20P 2X10 PH=1.27MM ST SMT 1.27Y-2X10SW-4.6R
designator J?, comment T690300124100  (value not drawn)
CONNECTOR 20PIN P:1.27MM FM90 K; MFG Part: 1.27Y-2X10SW-4.6R; MFG: 金佳; CREATE_NAME: Nathan; Value: 1.27mm; DIP&SMD: SMD; Current: 1A; SAP: T690300124100; Type: Connector; CREATE_TIME: 12-Apr-2018
footprint HOUSING 20P 2X10 PH=1.27MM ST SMT 1.27Y-2X10SW-4.6R
pins: 1, 2, 3, 4, 5, 6, 7, 8, 9, 10, 11, 12, 13, 14, 15, 16, 17, 18, 19, 20

## HOUSING 20P 2X10 PH=2.0mm ST SMT
designator J?, comment T690300097300  (value not drawn)
2*10PIN 2.0MM HOUSING K; MFG Part: 23430220CWG0MU03; MFG: 金瑞康; Current: 1.5A; CREATE_NAME: Tom; DIP&SMD: SMD; Value: 2.0mm; SAP: T690300097300; Vendor Name: *; Vendor Code: *; Type: Connector; CREATE_TIME: 26-Dec-2016
footprint HOUSING 20P 2X10 PH=2.0mm ST SMT
pins: 1, 2, 3, 4, 5, 6, 7, 8, 9, 10, 11, 12, 13, 14, 15, 16, 17, 18, 19, 20

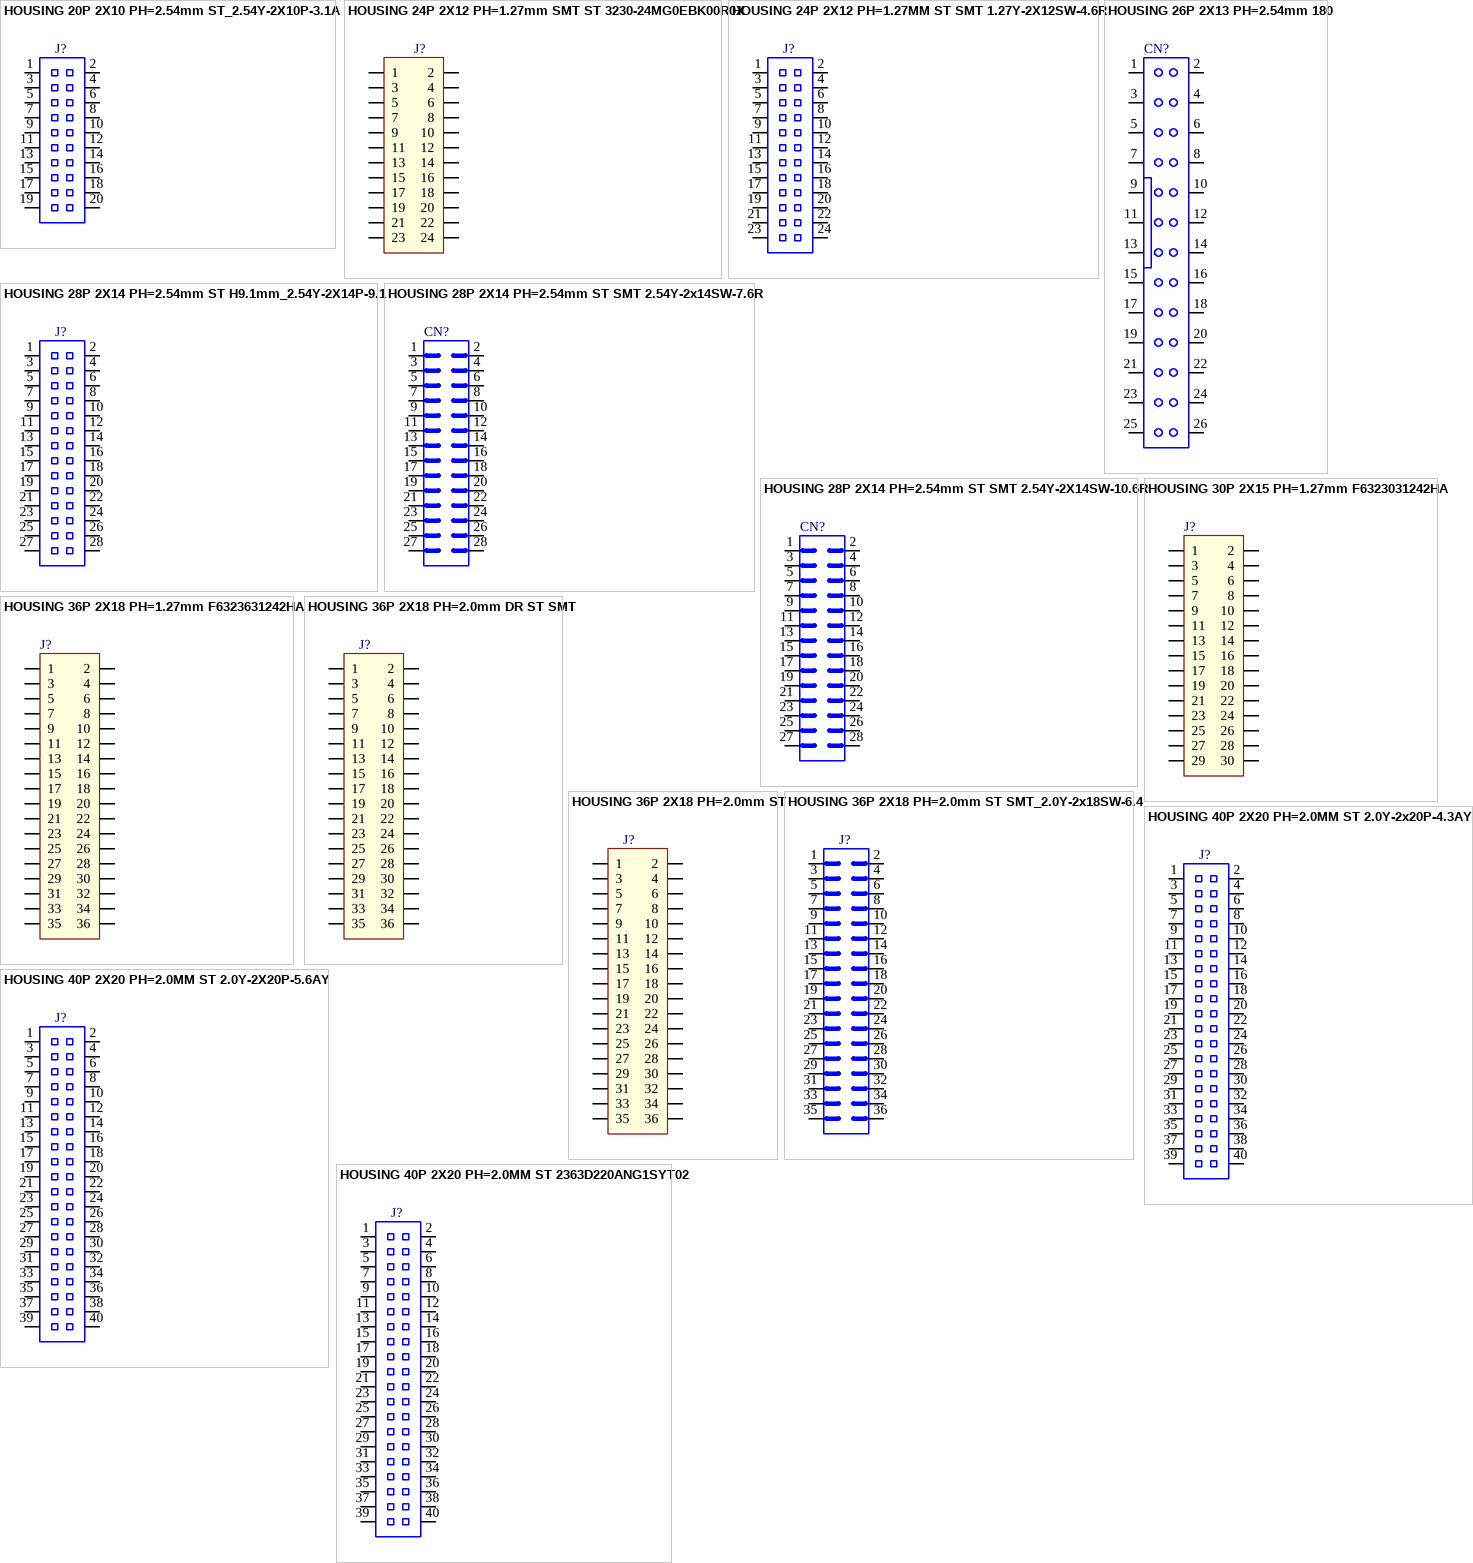
[diagram p11: symbols HOUSING 20P 2X10 PH=2.54mm ST_2.54Y-2X10P-3.1A to HOUSING 40P 2X20 PH=2.0MM ST 2363D220ANG1SYT02]

## HOUSING 20P 2X10 PH=2.54mm ST_2.54Y-2X10P-3.1A
designator J?, comment T690300163500  (value not drawn)
CONNECTOR 2.54MM 2X10PIN 250V 3A DIP 1 K; MFG Part: 2.54Y-2X10P-3.1A; MFG: JINJIA; CREATE_NAME: Nathan; Value: 2.54mm; SAP: T690300163500; Vendor Name: *; Vendor Code: *; Type: Connector; Current: 3A; CREATE_TIME: 25-Mar-2019; DIP&SMD: DIP
footprint HOUSING 20P 2X10 PH=2.54mm ST_2.54Y-2x10P-3.1A (2x10P 2.54 Housing  针长3.1, 塑高8.5)
pins: 1, 2, 3, 4, 5, 6, 7, 8, 9, 10, 11, 12, 13, 14, 15, 16, 17, 18, 19, 20

## HOUSING 24P 2X12 PH=1.27mm SMT ST 3230-24MG0EBK00R0X
designator J?, comment T690300126100  (value not drawn)
CONN 24P P1.27 M\90 3230-24MG0EBK00R0X K; Value: 1.27mm; MFG: 金瑞康 (JRCONN); CREATE_NAME: Nathan; DIP&SMD: SMD; SAP: T690300126100; MFG Part: 3230-24MG0EBK00R0X; Vendor Name: *; Vendor Code: *; Type: Connector; CREATE_TIME: 24-Oct-2017
footprint HOUSING 24P 2X12 PH=1.27mm SMT ST 3230-24MG0EBK00R0X (1.27Box Header 24pin H5.2 SMT L=7.0mm)
pins: 1, 2, 3, 4, 5, 6, 7, 8, 9, 10, 11, 12, 13, 14, 15, 16, 17, 18, 19, 20, 21, 22, 23, 24

## HOUSING 24P 2X12 PH=1.27MM ST SMT 1.27Y-2X12SW-4.6R
designator J?, comment T690300135000  (value not drawn)
CONNECTOR 24PIN P:1.27MM FM90 K; MFG Part: 1.27Y-2X12SW-4.6R; MFG: 金佳; CREATE_NAME: Nathan; Value: 1.27mm; DIP&SMD: SMD; Current: 1A; SAP: T690300135000; Type: Connector; CREATE_TIME: 12-Apr-2018
footprint HOUSING 24P 2X12 PH=1.27MM ST SMT 1.27Y-2X12SW-4.6R
pins: 1, 2, 3, 4, 5, 6, 7, 8, 9, 10, 11, 12, 13, 14, 15, 16, 17, 18, 19, 20, 21, 22, 23, 24

## HOUSING 26P 2X13 PH=2.54mm 180
designator CN?, comment T690300052100  (value not drawn)
2*13P 2.54  CONNECTOR; MFG Part: 3210-26SG0CBK00A01; MFG: JRCONN; CREATE_NAME: Tom; DIP&SMD: DIP; SAP: T690300052100; Vendor Name: *; Vendor Code: *; Value: *; Voltage: *; CREATE_TIME: 14-Sep-2015; Type: Connector; Current: *
footprint HOUSING 26P 2X13 PH=2.54mm 180 (HOUSING 2*10PIN P=2.54mm 180)
pins: 1, 2, 3, 4, 5, 6, 7, 8, 9, 10, 11, 12, 13, 14, 15, 16, 17, 18, 19, 20, 21, 22, 23, 24, 25, 26

## HOUSING 28P 2X14 PH=2.54mm ST H9.1mm_2.54Y-2X14P-9.1
designator J?, comment T690300165000  (value not drawn)
CONNECTOR 2X14PIN P:2.54 180 H:9.1 K; MFG Part: 2.54Y-2X14P-9.1; Value: 2.54mm; MFG: 金佳电子; CREATE_NAME: Nathan; DIP&SMD: DIP; SAP: T690300165000; Vendor Name: *; Vendor Code: *; Type: Connector; Current: *; CREATE_TIME: 11-Apr-2019
footprint HOUSING 28P 2X14 PH=2.54mm ST H9.1mm_2.54Y-2x14P-9.1 (CONN WIRE TO BOARD 14P PH2.54mm)
pins: 1, 2, 3, 4, 5, 6, 7, 8, 9, 10, 11, 12, 13, 14, 15, 16, 17, 18, 19, 20, 21, 22, 23, 24, 25, 26, 27, 28

## HOUSING 28P 2X14 PH=2.54mm ST SMT 2.54Y-2x14SW-7.6R
designator CN?, comment T690300162700  (value not drawn)
CONNECTOR 2X14PIN P:2.54 180 H:7.6MM K; MFG Part: 2.54Y-2x14SW-7.6R; MFG: JIN JIA; CREATE_NAME: Nathan; DIP&SMD: SMD; SAP: T690300162700; Vendor Name: *; Vendor Code: *; Value: *; Voltage: *; CREATE_TIME: 19-Mar-2019; Type: Connector; Current: *; Customer Specific: N/A
footprint HOUSING  28P 2X14 PH=2.54mm SMT ST 2.54Y-2x14SW-7.6R (Conn P2.54 H7.6mm 2X14Pin SMT)
pins: 1, 2, 3, 4, 5, 6, 7, 8, 9, 10, 11, 12, 13, 14, 15, 16, 17, 18, 19, 20, 21, 22, 23, 24, 25, 26, 27, 28

## HOUSING 28P 2X14 PH=2.54mm ST SMT 2.54Y-2X14SW-10.6R
designator CN?, comment T690300164900  (value not drawn)
CONNECTOR 2X14PIN P:2.54 90 H:10.6 K; MFG Part: 2.54Y-2X14SW-10.6R; MFG: JIN JIA; CREATE_NAME: Nathan; DIP&SMD: SMD; SAP: T690300164900; Vendor Name: *; Vendor Code: *; Value: *; Voltage: *; CREATE_TIME: 11-Apr-2019; Type: Connector; Current: *; Customer Specific: N/A
footprint HOUSING 28P 2X14 PH=2.54mm ST SMT 2.54Y-2X14SW-10.6R (HOUSING 2*14PIN P=2.54mm 180)
pins: 1, 2, 3, 4, 5, 6, 7, 8, 9, 10, 11, 12, 13, 14, 15, 16, 17, 18, 19, 20, 21, 22, 23, 24, 25, 26, 27, 28

## HOUSING 30P 2X15 PH=1.27mm F6323031242HA
designator J?, comment T690300120300  (value not drawn)
F HEAD 2*15 P1.27 F\90 F6323031242HA K; CREATE_NAME: Tom; MFG: JIATAICHEN; DIP&SMD: SMD; CREATE_TIME: 29-Sep-2017; MFG Part: F6323031242HA; SAP: T690300120300; Type: Connector
footprint HOUSING 30P 2X15 PH=1.27mm F6323031242HA
pins: 1, 2, 3, 4, 5, 6, 7, 8, 9, 10, 11, 12, 13, 14, 15, 16, 17, 18, 19, 20, 21, 22, 23, 24, 25, 26, 27, 28, 29, 30

## HOUSING 36P 2X18 PH=1.27mm F6323631242HA
designator J?, comment T690300121100  (value not drawn)
F HEAD 2*18 P1.27 F\90 F6323631242HA K; CREATE_NAME: Tom; MFG: JIATAICHEN; DIP&SMD: SMD; CREATE_TIME: 29-Sep-2017; MFG Part: F6323631242HA; SAP: T690300121100; Type: Connector
footprint HOUSING 36P 2X18 PH=1.27mm F6323631242HA
pins: 1, 2, 3, 4, 5, 6, 7, 8, 9, 10, 11, 12, 13, 14, 15, 16, 17, 18, 19, 20, 21, 22, 23, 24, 25, 26, 27, 28, 29, 30, 31, 32, 33, 34, 35, 36

## HOUSING 36P 2X18 PH=2.0mm DR ST SMT
designator J?, comment T690300099300  (value not drawn)
2*18PIN 2.0 CONNECTOR K; MFG Part: 322036MG0CBK00P01; Value: 2.0mm; MFG: 金瑞康; Current: 1.5A; CREATE_NAME: Nathan; DIP&SMD: SMD; SAP: T690300099300; Vendor Name: *; Vendor Code: *; Type: Connector; CREATE_TIME: 30-Dec-2016
footprint HOUSING 36P 2X18 PH=2.0MM DR ST SMT (HOUSING 2*18PIN P=2.0mm ST SMT H=6.2mm)
pins: 1, 2, 3, 4, 5, 6, 7, 8, 9, 10, 11, 12, 13, 14, 15, 16, 17, 18, 19, 20, 21, 22, 23, 24, 25, 26, 27, 28, 29, 30, 31, 32, 33, 34, 35, 36

## HOUSING 36P 2X18 PH=2.0mm ST
designator J?, comment T690300097500  (value not drawn)
36PIN 2.0 CONNECTOR K; Value: 2.0mm; Current: 1.5A; CREATE_NAME: Tom; DIP&SMD: DIP; SAP: T690300097500; MFG: *; MFG Part: *; Vendor Name: *; Vendor Code: *; Type: Connector; CREATE_TIME: 26-Dec-2016
footprint HOUSING 36P 2X18 PH=2.0MM ST (HOUSING 2*18PIN P=2.0mm ST)
pins: 1, 2, 3, 4, 5, 6, 7, 8, 9, 10, 11, 12, 13, 14, 15, 16, 17, 18, 19, 20, 21, 22, 23, 24, 25, 26, 27, 28, 29, 30, 31, 32, 33, 34, 35, 36

## HOUSING 36P 2X18 PH=2.0mm ST SMT_2.0Y-2x18SW-6.4
designator J?, comment T690300114000  (value not drawn)
CONN 2*18PIN P2.0 2.0Y-2X18SW-6.4 K; MFG: JINJIA; CREATE_NAME: Nathan; DIP&SMD: SMD; SAP: T690300114000; Vendor Name: *; Vendor Code: *; Type: Connector; MFG Part: 2.0Y-2x18SW-6.4; CREATE_TIME: 04-Aug-2017
footprint HOUSING 36P 2X18 PH=2.0mm ST SMT_2.0Y-2x18SW-6.4 (HOUSING 2*18PIN P=2.0mm  ST SMT)
pins: 1, 2, 3, 4, 5, 6, 7, 8, 9, 10, 11, 12, 13, 14, 15, 16, 17, 18, 19, 20, 21, 22, 23, 24, 25, 26, 27, 28, 29, 30, 31, 32, 33, 34, 35, 36

## HOUSING 40P 2X20 PH=2.0MM ST 2.0Y-2x20P-4.3AY
designator J?, comment T690300132200  (value not drawn)
F HEAD 2*20P P2.0 F\90 2.0Y-2X20P-4.3A K; MFG Part: 2.0Y-2x20P-4.3AY; Value: 2.0mm; MFG: 金佳; Current: 2A; CREATE_NAME: Nathan; DIP&SMD: DIP; SAP: T690300132200; Vendor Name: *; Vendor Code: *; Type: Connector; CREATE_TIME: 07-Feb-2018
footprint HOUSING 40P 2X20 PH=2.0MM ST 2.0Y-2x20P-4.3AY (HOUSING 40P 2X20 PH=2.0MM H4.3mm)
pins: 1, 2, 3, 4, 5, 6, 7, 8, 9, 10, 11, 12, 13, 14, 15, 16, 17, 18, 19, 20, 21, 22, 23, 24, 25, 26, 27, 28, 29, 30, 31, 32, 33, 34, 35, 36, 37, 38, 39, 40

## HOUSING 40P 2X20 PH=2.0MM ST 2.0Y-2X20P-5.6AY
designator J?, comment T690300144700  (value not drawn)
CONN 40P P2 M\180 2.0Y-2X20P-5.6AY K; Value: 2.0mm; MFG: JINJIA; Current: 2A; CREATE_NAME: Tom; DIP&SMD: DIP; SAP: T690300144700; MFG Part: 2.0Y-2X20P-5.6AY; Vendor Name: *; Vendor Code: *; Type: Connector; CREATE_TIME: 15-Jun-2018
footprint HOUSING 40P 2X20 PH=2.0mm ST 2.0Y-2X20P-5.6AY
pins: 1, 2, 3, 4, 5, 6, 7, 8, 9, 10, 11, 12, 13, 14, 15, 16, 17, 18, 19, 20, 21, 22, 23, 24, 25, 26, 27, 28, 29, 30, 31, 32, 33, 34, 35, 36, 37, 38, 39, 40

## HOUSING 40P 2X20 PH=2.0MM ST 2363D220ANG1SYT02
designator J?, comment T690300054600  (value not drawn)
HEAD 2*20PIN P=2.0MM H=9.85MM 180° DIP K; MFG Part: 2363D220ANG1SYT02; Value: 2.0mm; MFG: 金瑞康; Current: 1.5A; CREATE_NAME: Nathan; SAP: T690300054600; Vendor Name: *; Vendor Code: *; Type: Connector; CREATE_TIME: 21-May-2018; DIP&SMD: DIP
footprint HOUSING 40P 2X20 PH=2.0mm ST 2363D220ANG1SYT02 (2*20PIN P=2.0MM H6.35mm+H2.0+1.5mm 180° DIP)
pins: 1, 2, 3, 4, 5, 6, 7, 8, 9, 10, 11, 12, 13, 14, 15, 16, 17, 18, 19, 20, 21, 22, 23, 24, 25, 26, 27, 28, 29, 30, 31, 32, 33, 34, 35, 36, 37, 38, 39, 40

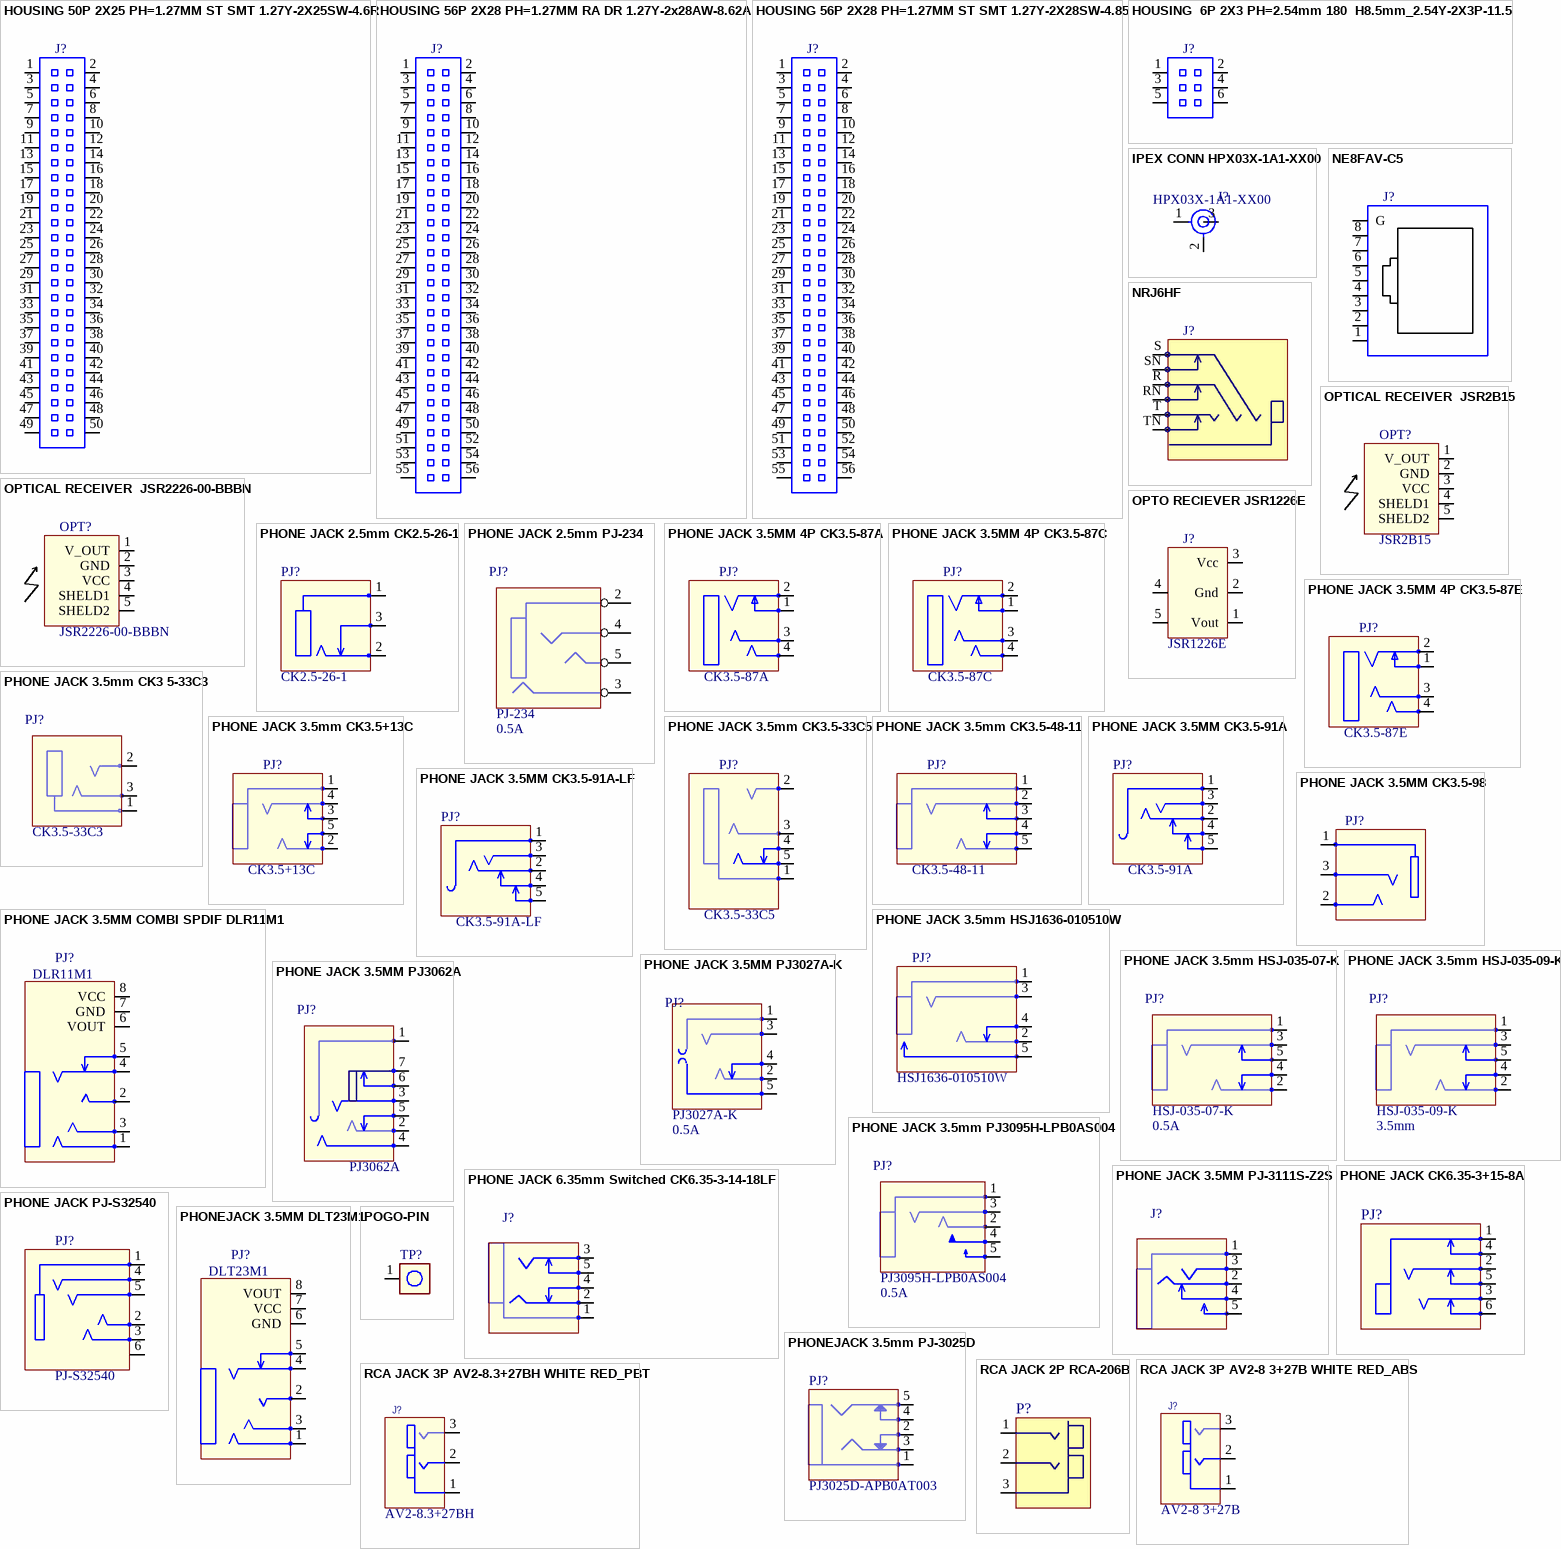
[diagram p12: symbols HOUSING 50P 2X25 PH=1.27MM ST SMT 1.27Y-2X25SW-4.6R to RCA JACK 3P AV2-8.3+27BH WHITE RED_PBT]

## HOUSING 50P 2X25 PH=1.27MM ST SMT 1.27Y-2X25SW-4.6R
designator J?, comment T690300124200  (value not drawn)
CONNECTOR 50PIN P:1.27MM FM90 K; MFG Part: 1.27Y-2X25SW-4.6R; MFG: 金佳; CREATE_NAME: Nathan; Value: 1.27mm; DIP&SMD: SMD; Current: 1A; SAP: T690300124200; Type: Connector; CREATE_TIME: 15-Jan-2018
footprint HOUSING 50P 2X25 PH=1.27MM ST SMT 1.27Y-2x25SW-4.6R
pins: 1, 2, 3, 4, 5, 6, 7, 8, 9, 10, 11, 12, 13, 14, 15, 16, 17, 18, 19, 20, 21, 22, 23, 24, 25, 26, 27, 28, 29, 30, 31, 32, 33, 34, 35, 36, 37, 38, 39, 40, 41, 42, 43, 44, 45, 46, 47, 48, 49, 50

## HOUSING 56P 2X28 PH=1.27MM RA DR 1.27Y-2x28AW-8.62A
designator J?, comment T690300110700  (value not drawn)
CONN 2*28PIN P1.27 1.27Y-2X28AW-8.62A K; MFG: JINJIA; CREATE_NAME: Nathan; Value: 1.27mm; DIP&SMD: DIP; SAP: T690300110700; MFG Part: 1.27Y-2x28AW-8.62A; Type: Connector; CREATE_TIME: 20-June-2017
footprint HOUSING 56P 2X28 PH=1.27MM RA DR 1.27Y-2x28AW-8.62A (HOUSING 56P 2X28 PH=1.27MM RA 1.27Y-2x28AW-8.62A)
pins: 1, 2, 3, 4, 5, 6, 7, 8, 9, 10, 11, 12, 13, 14, 15, 16, 17, 18, 19, 20, 21, 22, 23, 24, 25, 26, 27, 28, 29, 30, 31, 32, 33, 34, 35, 36, 37, 38, 39, 40, 41, 42, 43, 44, 45, 46, 47, 48, 49, 50, 51, 52, 53, 54, 55, 56

## HOUSING 56P 2X28 PH=1.27MM ST SMT 1.27Y-2X28SW-4.85
designator J?, comment T690300110600  (value not drawn)
CONN 2*28PIN P1.27 1.27Y-2X28SW-4.85 K; MFG: JINJIA; CREATE_NAME: Nathan; Value: 1.27mm; DIP&SMD: SMD; SAP: T690300110600; MFG Part: 1.27Y-2X28SW-4.85; Type: Connector; CREATE_TIME: 15-June-2017
footprint HOUSING 56P 2X28 PH=1.27MM ST SMT 1.27Y-2x28SW-4.85
pins: 1, 2, 3, 4, 5, 6, 7, 8, 9, 10, 11, 12, 13, 14, 15, 16, 17, 18, 19, 20, 21, 22, 23, 24, 25, 26, 27, 28, 29, 30, 31, 32, 33, 34, 35, 36, 37, 38, 39, 40, 41, 42, 43, 44, 45, 46, 47, 48, 49, 50, 51, 52, 53, 54, 55, 56

## HOUSING  6P 2X3 PH=2.54mm 180  H8.5mm_2.54Y-2X3P-11.5
designator J?, comment T690300110100  (value not drawn)
HOUSING DUAL PIN 2*3PIN 2.54MM DIP 180 K; MFG Part: 2.54Y-2X3P-11.5; MFG: JINJIA; CREATE_NAME: Nathan; Value: 2.54mm; SAP: T690300110100; Vendor Name: *; Vendor Code: *; Type: Connector; Current: *; CREATE_TIME: 11-Sep-2017; DIP&SMD: DIP
footprint HOUSING  6P 2X3 PH=2.54mm 180  H8.5mm_2.54Y-2X3P-11.5
pins: 1, 2, 3, 4, 5, 6

## IPEX CONN HPX03X-1A1-XX00
designator J?, comment MFG Part: HPX03X-1A1-XX00  (hidden comment: COT130017-0001)
SMD IPEX CONNECTOR HPX03X-1A1-XX00; SAP: T690300035700; MFG: 高端; CREATE_NAME: GordonL@Deftronics; Value: *; Vendor Name: *; Vendor Code: *; Type: Connector; CREATE_TIME: 29-MAR-2013; Current: *; DIP&SMD: SMD
footprint IPEX CONN HPX03X-1A1-XX00
pins: 1, 2, 3

## NE8FAV-C5
designator J?, comment T710200009600  (value not drawn)
5 RECEPTACLE NE8FAV-C5 LATCH LOCK W; MFG: NEUTRIK; CREATE_NAME: Nathan; DIP&SMD: DIP; SAP: T710200009600; Vendor Name: *; Vendor Code: *; Type: Connector; MFG Part: NE8FAV-C5; CREATE_TIME: 31-May-2016; Customer Specific: N/A
footprint NE8FAV-C5 (Vertical PCB mount RJ45 receptacle, CAT5e,)
pins: 1, 2, 3, 4, 5, 6, 7, 8, G

## NRJ6HF
designator J?, comment T710200009700  (value not drawn)
6.35MM STEREO JACK NRJ6HF W; MFG: NEUTRIK; CREATE_NAME: Nathan; DIP&SMD: DIP; SAP: T710200009700; Vendor Name: *; Vendor Code: *; Type: Connector; MFG Part: NRJ6HF; CREATE_TIME: 29-June-2016; Customer Specific: N/A
footprint NRJ6HF
pins: R, RN, S, SN, T, TN

## OPTICAL RECEIVER  JSR2B15
designator OPT?, comment MFG Part: JSR2B15  (hidden comment: T690300070500)
OPTICAL RECEIVER JSR2B15 25MBPS 2.7~5. G; MFG: 捷腾光电; CREATE_NAME: Tom; DIP&SMD: DIP; Vendor Code: *; SAP: T690300070500; Vendor Name: *; Type: Connector; CREATE_TIME: 11-Jan-2016
footprint OPTICAL RECEIVER  JSR2B15
pins: 1 V_OUT, 2 GND, 3 VCC, 4 SHELD1, 5 SHELD2

## OPTICAL RECEIVER  JSR2226-00-BBBN
designator OPT?, comment MFG Part: JSR2226-00-BBBN  (hidden comment: T690300153600)
CONN OPTO-RECEIVER 3P 2.54MM JSR2226-0 K; MFG: Solteam; CREATE_NAME: Nathan; DIP&SMD: DIP; Vendor Code: *; SAP: T690300153600; Vendor Name: *; Type: Connector; CREATE_TIME: 15-Oct-2018
footprint OPTICAL RECEIVER  JSR2226-00-BBBN (Fiber optic Receiver Module)
pins: 1 V_OUT, 2 GND, 3 VCC, 4 SHELD1, 5 SHELD2

## OPTO RECIEVER JSR1226E
designator J?, comment MFG Part: JSR1226E  (hidden comment: T690300091000)
CONN OPTO-RECEIVER 2.54MM 3P JSR1226E K; MFG: SOLTEAM; CREATE_NAME: Nathan; DIP&SMD: DIP; SAP: T690300091000; Vendor Name: *; Vendor Code: *; Type: Connector; CREATE_TIME: 09-Jan-2018
footprint JSR1226
pins: 1 Vout, 2 Gnd, 3 Vcc, 4, 5

## PHONE JACK 2.5mm CK2.5-26-1
designator PJ?, comment MFG Part: CK2.5-26-1  (hidden comment: T710200013100)
PHONE JACK D2.5MM DIP 3P CK2.5-26-1 K; MFG: 金佳; Value: 2.5mm; CREATE_NAME: Tom; SAP: T710200013100; Vendor Code: *; Vendor Name: *; Type: Connector; CREATE_TIME: 01-Sep-2017; Current: *; DIP&SMD: DIP
footprint PHONE JACK 2.5mm CK2.5-26-1
pins: 1, 2, 3

## PHONE JACK 2.5mm PJ-234
designator PJ?, comment Current: 0.5A  MFG Part: PJ-234  (hidden comment: CJMA25001-3010)
SMT PHONE JACK D2.5mm 4PIN  PJ-234; MFG: 金明浩; Value: 2.5mm; Vendor Name: 深圳市金明浩电子科技有限公司; Vendor Code: 10010007; SAP: T690300009200; DIP&SMD: SMD; Type: Connector
footprint PHONE JACK 2.5mm PJ-234 (SMT PHONE JACK D2.5mm 4PIN  PJ-234)
pins: 2, 3, 4, 5

## PHONE JACK 3.5MM 4P CK3.5-87A
designator PJ?, comment MFG Part: CK3.5-87A  (hidden comment: T690300052400)
PHONE JACK 4P D3.5MM CK3.5-87A G (black color); CREATE_NAME: Joe; MFG: 浙江金佳; DIP&SMD: DIP; Vendor Code: *; Value: *; Voltage: *; CREATE_TIME: 29-Sep-2015; SAP: T690300052400
footprint PHONE JACK 3.5MM 4P CK3.5-87A
pins: 1, 2, 3, 4

## PHONE JACK 3.5MM 4P CK3.5-87C
designator PJ?, comment MFG Part: CK3.5-87C  (hidden comment: T690300077800)
PHONE JACK 4P CK3.5-87C H; CREATE_NAME: Nathan; MFG: 浙江金佳; DIP&SMD: DIP; Vendor Code: *; Value: *; Voltage: *; CREATE_TIME: 3-May-2016; SAP: T690300077800
footprint PHONE JACK 3.5MM 4P CK3.5-87C (PHONE JACK 3.5MM)
pins: 1, 2, 3, 4

## PHONE JACK 3.5MM 4P CK3.5-87E
designator PJ?, comment MFG Part: CK3.5-87E  (hidden comment: T690300149100)
3.5MM PHONE JACK CK3.5-87E K; CREATE_NAME: Nathan; MFG: 浙江金佳; DIP&SMD: DIP; Vendor Code: *; Value: *; Voltage: *; CREATE_TIME: 29-July-2018; SAP: T690300149100
footprint PHONE JACK 3.5MM 4P CK3.5-87E (PHONE JACK 3.5MM)
pins: 1, 2, 3, 4

## PHONE JACK 3.5mm CK3 5-33C3
designator PJ?, comment MFG Part: CK3.5-33C3  (hidden comment: T690300052000)
PHONE JACK 3.5MM CK3.5-33C3; MFG: JINJIA; CREATE_NAME: Tom; DIP&SMD: DIP; SAP: T690300052000; Vendor Code: *; Vendor Name: *; Value: 3.5mm; Type: Connector; CREATE_TIME: 14-Sep-2015
footprint Phone Jack CK3 5-33C3
pins: 1, 2, 3

## PHONE JACK 3.5mm CK3.5+13C
designator PJ?, comment MFG Part: CK3.5+13C  (hidden comment: T710200014800)
PHONE JACK 3.5MM CK3.5+13C K; MFG: 金佳电子; DIP&SMD: DIP; Current: 0.3A; CREATE_NAME: Nathan; SAP: T710200014800; Vendor Code: *; Vendor Name: *; Value: 3.5mm; Type: Connector; CREATE_TIME: 25-Jan-2018
footprint PHONE JACK 3.5mm CK3.5+13C (PHONE JACK 3.5mm CK3.5+13C H12.5mm)
pins: 1, 2, 3, 4, 5

## PHONE JACK 3.5mm CK3.5-33C5
designator PJ?, comment MFG Part: CK3.5-33C5  (hidden comment: T710200010500)
EARPHONE JACK K; MFG: JINJIA; Value: 3.5mm; CREATE_NAME: Nathan; DIP&SMD: DIP; SAP: T710200010500; Vendor Code: *; Vendor Name: *; Type: Connector; CREATE_TIME: 11-Oct-2015
footprint Phone Jack CK3.5-33C5 (JIN JIA CK3.5-33C5)
pins: 1, 2, 3, 4, 5

## PHONE JACK 3.5mm CK3.5-48-11
designator PJ?, comment MFG Part: CK3.5-48-11  (hidden comment: T690300054300)
PHONE JACK 3.5MM CK3.5-48-11 G; MFG: JINJIA; CREATE_NAME: Nathan; DIP&SMD: DIP; SAP: T690300054300; Vendor Code: *; Vendor Name: *; Value: 3.5mm; Type: Connector; Current: *; CREATE_TIME: 23-Aug-2017
footprint PHONE JACK 3.5mm CK3.5-48-11 (PHONE JACK 3.5mm CK3.5-48-11   H9.5mm)
pins: 1, 2, 3, 4, 5

## PHONE JACK 3.5MM CK3.5-91A
designator PJ?, comment MFG Part: CK3.5-91A  (hidden comment: T690300057000)
PHONE JACK 3.5MM 5P H=15MM CK3.5-91A G; MFG: 金佳; CREATE_NAME: Tom; Current: 0.5A; DIP&SMD: DIP; SAP: T690300057000; Vendor Code: *; Vendor Name: *; Value: 3.5mm; Type: Connector; CREATE_TIME: 13-Nov-2015
footprint PHONE JACK 3.5MM CK3.5-91A (PHONE JACK 3.5MM 5P H=15MM CK3.5-91A G)
pins: 1, 2, 3, 4, 5

## PHONE JACK 3.5MM CK3.5-91A-LF
designator PJ?, comment MFG Part: CK3.5-91A-LF  (hidden comment: T690300096600)
PHONE JACK 3.5MM 5P H=15MM CK3.5-91A-L K; MFG: 金佳; CREATE_NAME: Tom; Current: 0.5A; DIP&SMD: DIP; SAP: T690300096600; Vendor Code: *; Vendor Name: *; Value: 3.5mm; Type: Connector; CREATE_TIME: 22-Dec-2016
footprint PHONE JACK 3.5MM CK3.5-91A (PHONE JACK 3.5MM 5P H=15MM CK3.5-91A G)
pins: 1, 2, 3, 4, 5

## PHONE JACK 3.5MM CK3.5-98
designator PJ?, comment T710200007400  (value not drawn)
3.5MM PHONE JACK GILDING G; MFG Part: CK3.5-98; MFG: JINJIA; CREATE_NAME: Nathan; CREATE_TIME: 05-July_2016; DIP&SMD: DIP; SAP: T710200007400; Vendor Code: *; Vendor Name: *; Current: *; Type: Connector; Value: *
footprint PHONE JACK 3.5MM CK3.5-98
pins: 1, 2, 3